# Altium integrated library Xilinx PLD XC7000.IntLib: 173 symbols (part 5 of 7)
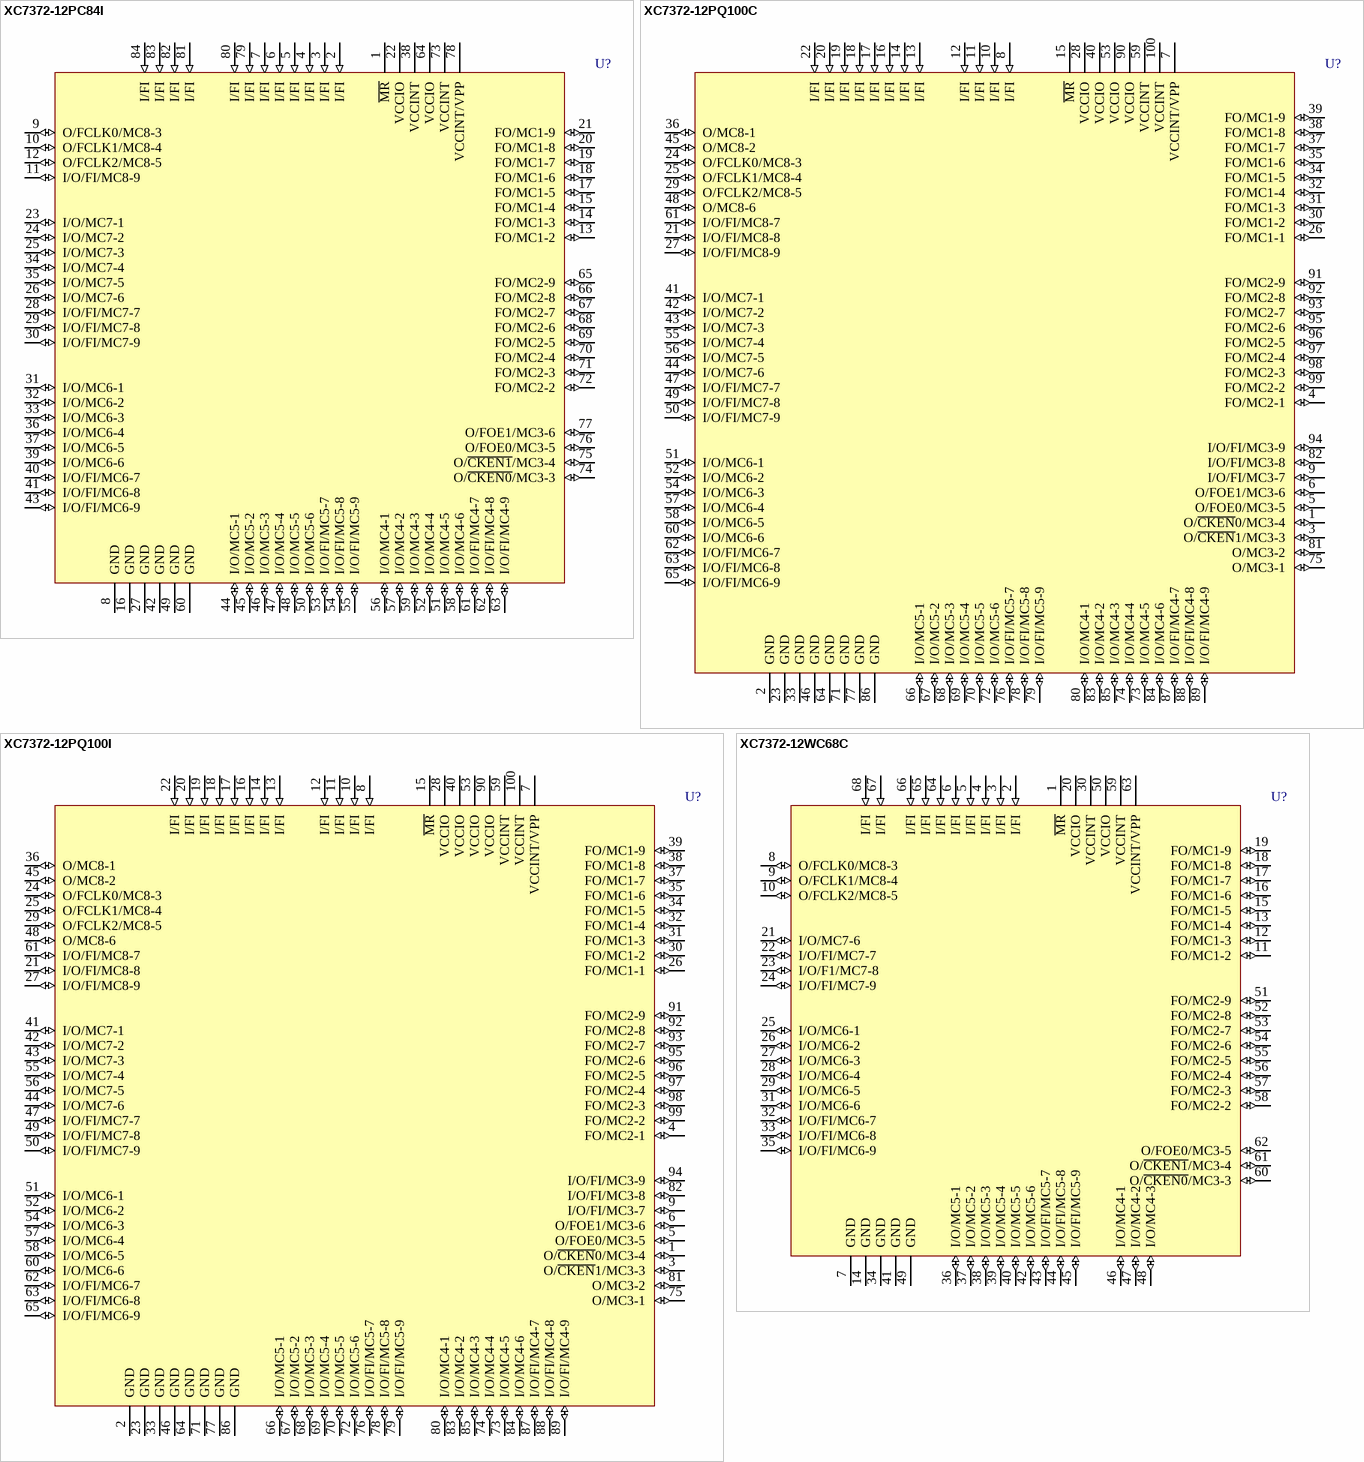
[diagram p51: symbols XC7372-12PC84I to XC7372-12WC68C]

## XC7372-12PC84I
designator U?
72 Macrocell CMOS EPLD, with 37 I/O Pins, 84-Pin PLCC, Industrial Grade; PackageDocument: ver1.0, Jun-2000; Published: 8-Jun-2000; LatestRevisionDate: 17-Sep-2003; LatestRevisionNote: PCB Footprint dimensions updated; DatasheetDocument: 1994; PackageReference: PC84; Publisher: Altium Limited; Code_JEDEC: MS-047; Code_IPC: PLCC-84
footprint PC84 (84-Pin Plastic Leaded Chip Carrier (PC84))
pins: 1 ~{MR}, 2 I/FI (in), 3 I/FI (in), 4 I/FI (in), 5 I/FI (in), 6 I/FI (in), 7 I/FI (in), 8 GND (power), 9 O/FCLK0/MC8-3 (io), 10 O/FCLK1/MC8-4 (io), 11 I/O/FI/MC8-9 (io), 12 O/FCLK2/MC8-5 (io), 13 FO/MC1-2 (io), 14 FO/MC1-3 (io), 15 FO/MC1-4 (io), 16 GND (power), 17 FO/MC1-5 (io), 18 FO/MC1-6 (io), 19 FO/MC1-7 (io), 20 FO/MC1-8 (io), 21 FO/MC1-9 (io), 22 VCCIO (power), 23 I/O/MC7-1 (io), 24 I/O/MC7-2 (io), 25 I/O/MC7-3 (io), 26 I/O/MC7-6 (io), 27 GND (power), 28 I/O/FI/MC7-7 (io), 29 I/O/FI/MC7-8 (io), 30 I/O/FI/MC7-9 (io), 31 I/O/MC6-1 (io), 32 I/O/MC6-2 (io), 33 I/O/MC6-3 (io), 34 I/O/MC7-4 (io), 35 I/O/MC7-5 (io), 36 I/O/MC6-4 (io), 37 I/O/MC6-5 (io), 38 VCCINT (power), 39 I/O/MC6-6 (io), 40 I/O/FI/MC6-7 (io), 41 I/O/FI/MC6-8 (io), 42 GND (power), 43 I/O/FI/MC6-9 (io), 44 I/O/MC5-1 (io), 45 I/O/MC5-2 (io), 46 I/O/MC5-3 (io), 47 I/O/MC5-4 (io), 48 I/O/MC5-5 (io), 49 GND (power), 50 I/O/MC5-6 (io), 51 I/O/MC4-5 (io), 52 I/O/MC4-4 (io), 53 I/O/FI/MC5-7 (io), 54 I/O/FI/MC5-8 (io), 55 I/O/FI/MC5-9 (io), 56 I/O/MC4-1 (io), 57 I/O/MC4-2 (io), 58 I/O/MC4-6 (io), 59 I/O/MC4-3 (io), 60 GND (power), 61 I/O/FI/MC4-7 (io), 62 I/O/FI/MC4-8 (io), 63 I/O/FI/MC4-9 (io), 64 VCCIO (power), 65 FO/MC2-9 (io), 66 FO/MC2-8 (io), 67 FO/MC2-7 (io), 68 FO/MC2-6 (io), 69 FO/MC2-5 (io), 70 FO/MC2-4 (io), 71 FO/MC2-3 (io), 72 FO/MC2-2 (io), 73 VCCINT (power), 74 O/~{CKEN0}/MC3-3 (io), 75 O/~{CKEN1}/MC3-4 (io), 76 O/FOE0/MC3-5 (io), 77 O/FOE1/MC3-6 (io), 78 VCCINT/VPP (power), 79 I/FI (in), 80 I/FI (in), 81 I/FI (in), 82 I/FI (in), 83 I/FI (in), 84 I/FI (in)

## XC7372-12PQ100C
designator U?
72 Macrocell CMOS EPLD, with 42 I/O Pins, 100-Pin PQFP, Commercial Grade; PackageDocument: ver1.2, Oct-2002; Published: 8-Jun-2000; LatestRevisionDate: 17-Sep-2003; LatestRevisionNote: PCB Footprint dimensions updated; DatasheetDocument: 1994; PackageReference: PQ100; Publisher: Altium Limited; Code_IPC: QFP-14X20-100
footprint PQ100 (100-Pin Plastic Quad Flat Pack (PQ100))
pins: 1 O/~{CKEN}0/MC3-4 (io), 2 GND (power), 3 O/~{CKEN}1/MC3-3 (io), 4 FO/MC2-1 (io), 5 O/FOE0/MC3-5 (io), 6 O/FOE1/MC3-6 (io), 7 VCCINT/VPP (power), 8 I/FI (in), 9 I/O/FI/MC3-7 (io), 10 I/FI (in), 11 I/FI (in), 12 I/FI (in), 13 I/FI (in), 14 I/FI (in), 15 ~{MR}, 16 I/FI (in), 17 I/FI (in), 18 I/FI (in), 19 I/FI (in), 20 I/FI (in), 21 I/O/FI/MC8-8 (io), 22 I/FI (in), 23 GND (power), 24 O/FCLK0/MC8-3 (io), 25 O/FCLK1/MC8-4 (io), 26 FO/MC1-1 (io), 27 I/O/FI/MC8-9 (io), 28 VCCIO (power), 29 O/FCLK2/MC8-5 (io), 30 FO/MC1-2 (io), 31 FO/MC1-3 (io), 32 FO/MC1-4 (io), 33 GND (power), 34 FO/MC1-5 (io), 35 FO/MC1-6 (io), 36 O/MC8-1 (io), 37 FO/MC1-7 (io), 38 FO/MC1-8 (io), 39 FO/MC1-9 (io), 40 VCCIO (power), 41 I/O/MC7-1 (io), 42 I/O/MC7-2 (io), 43 I/O/MC7-3 (io), 44 I/O/MC7-6 (io), 45 O/MC8-2 (io), 46 GND (power), 47 I/O/FI/MC7-7 (io), 48 O/MC8-6 (io), 49 I/O/FI/MC7-8 (io), 50 I/O/FI/MC7-9 (io), 51 I/O/MC6-1 (io), 52 I/O/MC6-2 (io), 53 VCCIO (power), 54 I/O/MC6-3 (io), 55 I/O/MC7-4 (io), 56 I/O/MC7-5 (io), 57 I/O/MC6-4 (io), 58 I/O/MC6-5 (io), 59 VCCINT (power), 60 I/O/MC6-6 (io), 61 I/O/FI/MC8-7 (io), 62 I/O/FI/MC6-7 (io), 63 I/O/FI/MC6-8 (io), 64 GND (power), 65 I/O/FI/MC6-9 (io), 66 I/O/MC5-1 (io), 67 I/O/MC5-2 (io), 68 I/O/MC5-3 (io), 69 I/O/MC5-4 (io), 70 I/O/MC5-5 (io), 71 GND (power), 72 I/O/MC5-6 (io), 73 I/O/MC4-5 (io), 74 I/O/MC4-4 (io), 75 O/MC3-1 (io), 76 I/O/FI/MC5-7 (io), 77 GND (power), 78 I/O/FI/MC5-8 (io), 79 I/O/FI/MC5-9 (io), 80 I/O/MC4-1 (io), 81 O/MC3-2 (io), 82 I/O/FI/MC3-8 (io), 83 I/O/MC4-2 (io), 84 I/O/MC4-6 (io), 85 I/O/MC4-3 (io), 86 GND (power), 87 I/O/FI/MC4-7 (io), 88 I/O/FI/MC4-8 (io), 89 I/O/FI/MC4-9 (io), 90 VCCIO (power), 91 FO/MC2-9 (io), 92 FO/MC2-8 (io), 93 FO/MC2-7 (io), 94 I/O/FI/MC3-9 (io), 95 FO/MC2-6 (io), 96 FO/MC2-5 (io), 97 FO/MC2-4 (io), 98 FO/MC2-3 (io), 99 FO/MC2-2 (io), 100 VCCINT (power)

## XC7372-12PQ100I
designator U?
72 Macrocell CMOS EPLD, with 42 I/O Pins, 100-Pin PQFP, Industrial Grade; PackageDocument: ver1.2, Oct-2002; Published: 8-Jun-2000; LatestRevisionDate: 17-Sep-2003; LatestRevisionNote: PCB Footprint dimensions updated; DatasheetDocument: 1994; PackageReference: PQ100; Publisher: Altium Limited; Code_IPC: QFP-14X20-100
footprint PQ100 (100-Pin Plastic Quad Flat Pack (PQ100))
pins: 1 O/~{CKEN}0/MC3-4 (io), 2 GND (power), 3 O/~{CKEN}1/MC3-3 (io), 4 FO/MC2-1 (io), 5 O/FOE0/MC3-5 (io), 6 O/FOE1/MC3-6 (io), 7 VCCINT/VPP (power), 8 I/FI (in), 9 I/O/FI/MC3-7 (io), 10 I/FI (in), 11 I/FI (in), 12 I/FI (in), 13 I/FI (in), 14 I/FI (in), 15 ~{MR}, 16 I/FI (in), 17 I/FI (in), 18 I/FI (in), 19 I/FI (in), 20 I/FI (in), 21 I/O/FI/MC8-8 (io), 22 I/FI (in), 23 GND (power), 24 O/FCLK0/MC8-3 (io), 25 O/FCLK1/MC8-4 (io), 26 FO/MC1-1 (io), 27 I/O/FI/MC8-9 (io), 28 VCCIO (power), 29 O/FCLK2/MC8-5 (io), 30 FO/MC1-2 (io), 31 FO/MC1-3 (io), 32 FO/MC1-4 (io), 33 GND (power), 34 FO/MC1-5 (io), 35 FO/MC1-6 (io), 36 O/MC8-1 (io), 37 FO/MC1-7 (io), 38 FO/MC1-8 (io), 39 FO/MC1-9 (io), 40 VCCIO (power), 41 I/O/MC7-1 (io), 42 I/O/MC7-2 (io), 43 I/O/MC7-3 (io), 44 I/O/MC7-6 (io), 45 O/MC8-2 (io), 46 GND (power), 47 I/O/FI/MC7-7 (io), 48 O/MC8-6 (io), 49 I/O/FI/MC7-8 (io), 50 I/O/FI/MC7-9 (io), 51 I/O/MC6-1 (io), 52 I/O/MC6-2 (io), 53 VCCIO (power), 54 I/O/MC6-3 (io), 55 I/O/MC7-4 (io), 56 I/O/MC7-5 (io), 57 I/O/MC6-4 (io), 58 I/O/MC6-5 (io), 59 VCCINT (power), 60 I/O/MC6-6 (io), 61 I/O/FI/MC8-7 (io), 62 I/O/FI/MC6-7 (io), 63 I/O/FI/MC6-8 (io), 64 GND (power), 65 I/O/FI/MC6-9 (io), 66 I/O/MC5-1 (io), 67 I/O/MC5-2 (io), 68 I/O/MC5-3 (io), 69 I/O/MC5-4 (io), 70 I/O/MC5-5 (io), 71 GND (power), 72 I/O/MC5-6 (io), 73 I/O/MC4-5 (io), 74 I/O/MC4-4 (io), 75 O/MC3-1 (io), 76 I/O/FI/MC5-7 (io), 77 GND (power), 78 I/O/FI/MC5-8 (io), 79 I/O/FI/MC5-9 (io), 80 I/O/MC4-1 (io), 81 O/MC3-2 (io), 82 I/O/FI/MC3-8 (io), 83 I/O/MC4-2 (io), 84 I/O/MC4-6 (io), 85 I/O/MC4-3 (io), 86 GND (power), 87 I/O/FI/MC4-7 (io), 88 I/O/FI/MC4-8 (io), 89 I/O/FI/MC4-9 (io), 90 VCCIO (power), 91 FO/MC2-9 (io), 92 FO/MC2-8 (io), 93 FO/MC2-7 (io), 94 I/O/FI/MC3-9 (io), 95 FO/MC2-6 (io), 96 FO/MC2-5 (io), 97 FO/MC2-4 (io), 98 FO/MC2-3 (io), 99 FO/MC2-2 (io), 100 VCCINT (power)

## XC7372-12WC68C
designator U?
72 Macrocell CMOS EPLD, with 25 I/O Pins, 68-Pin CLCC, Commercial Grade; PackageDocument: 1994; Published: 8-Jun-2000; LatestRevisionDate: 17-Jul-2002; LatestRevisionNote: Re-released for DXP Platform.; DatasheetDocument: 1994; PackageReference: WC68; Publisher: Altium Limited
footprint WC68 (68-Pin Windowed Ceramic Leaded Chip Carrier (WC68))
pins: 1 ~{MR}, 2 I/FI (in), 3 I/FI (in), 4 I/FI (in), 5 I/FI (in), 6 I/FI (in), 7 GND (power), 8 O/FCLK0/MC8-3 (io), 9 O/FCLK1/MC8-4 (io), 10 O/FCLK2/MC8-5 (io), 11 FO/MC1-2 (io), 12 FO/MC1-3 (io), 13 FO/MC1-4 (io), 14 GND (power), 15 FO/MC1-5 (io), 16 FO/MC1-6 (io), 17 FO/MC1-7 (io), 18 FO/MC1-8 (io), 19 FO/MC1-9 (io), 20 VCCIO (power), 21 I/O/MC7-6 (io), 22 I/O/FI/MC7-7 (io), 23 I/O/F1/MC7-8 (io), 24 I/O/FI/MC7-9 (io), 25 I/O/MC6-1 (io), 26 I/O/MC6-2 (io), 27 I/O/MC6-3 (io), 28 I/O/MC6-4 (io), 29 I/O/MC6-5 (io), 30 VCCINT (power), 31 I/O/MC6-6 (io), 32 I/O/FI/MC6-7 (io), 33 I/O/FI/MC6-8 (io), 34 GND (power), 35 I/O/FI/MC6-9 (io), 36 I/O/MC5-1 (io), 37 I/O/MC5-2 (io), 38 I/O/MC5-3 (io), 39 I/O/MC5-4 (io), 40 I/O/MC5-5 (io), 41 GND (power), 42 I/O/MC5-6 (io), 43 I/O/FI/MC5-7 (io), 44 I/O/FI/MC5-8 (io), 45 I/O/FI/MC5-9 (io), 46 I/O/MC4-1 (io), 47 I/O/MC4-2 (io), 48 I/O/MC4-3 (io), 49 GND (power), 50 VCCIO (power), 51 FO/MC2-9 (io), 52 FO/MC2-8 (io), 53 FO/MC2-7 (io), 54 FO/MC2-6 (io), 55 FO/MC2-5 (io), 56 FO/MC2-4 (io), 57 FO/MC2-3 (io), 58 FO/MC2-2 (io), 59 VCCINT (power), 60 O/~{CKEN0}/MC3-3 (io), 61 O/~{CKEN1}/MC3-4 (io), 62 O/FOE0/MC3-5 (io), 63 VCCINT/VPP (power), 64 I/FI (in), 65 I/FI (in), 66 I/FI (in), 67 I/FI (in), 68 I/FI (in)

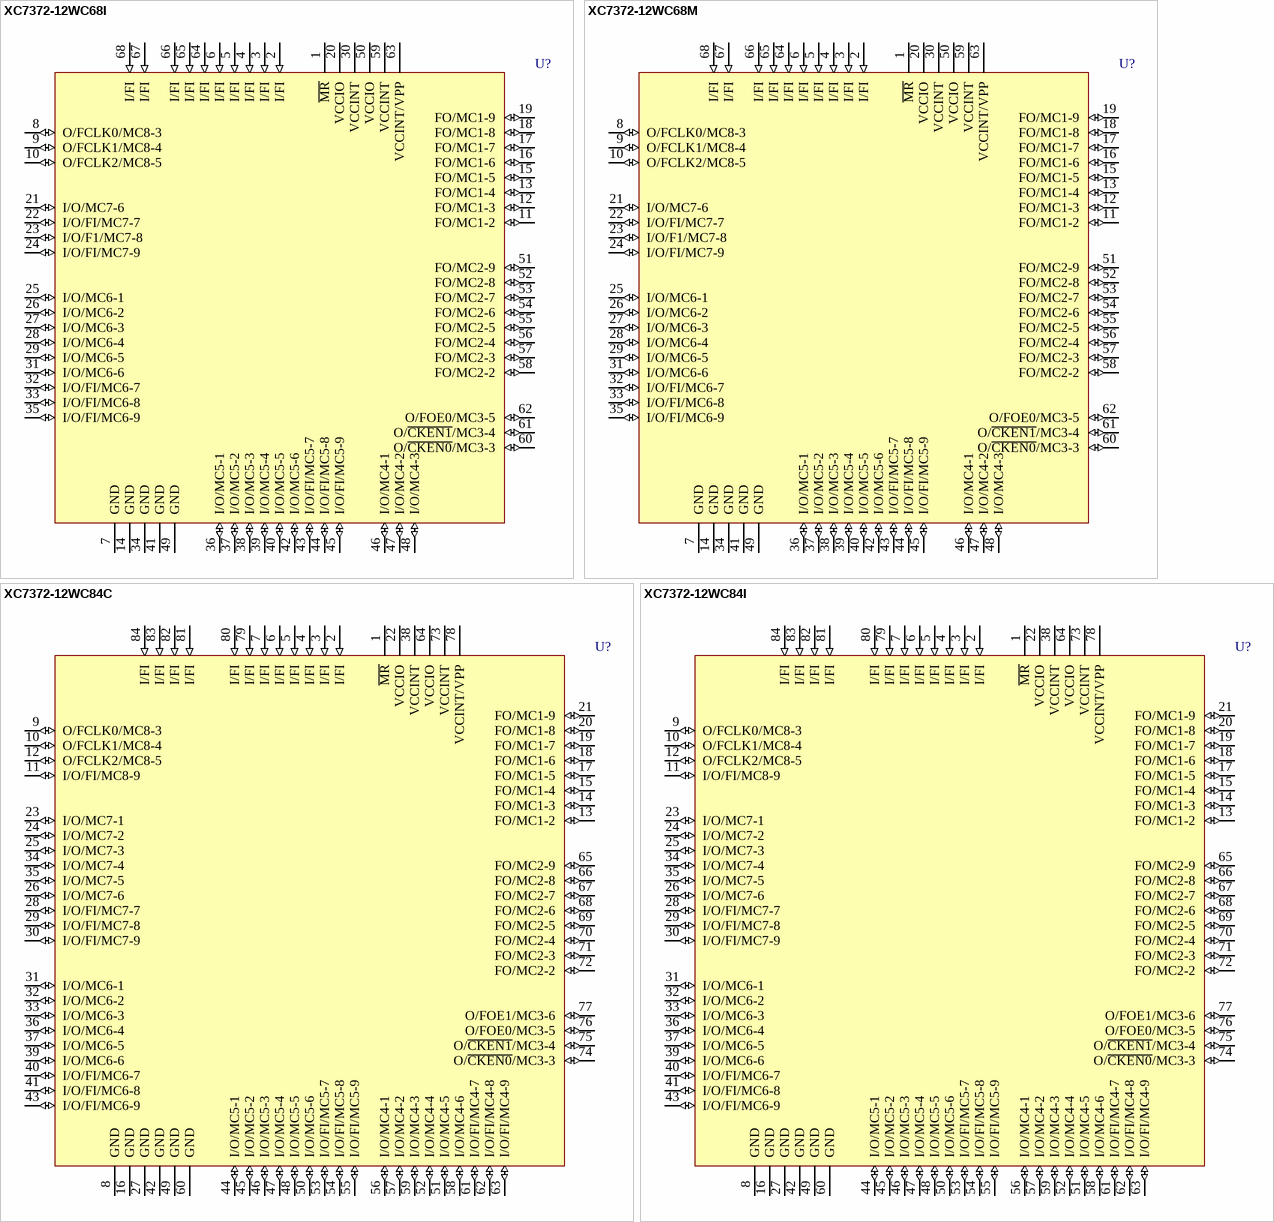
[diagram p25: symbols XC7372-12WC68I to XC7372-12WC84I]

## XC7372-12WC68I
designator U?
72 Macrocell CMOS EPLD, with 25 I/O Pins, 68-Pin CLCC, Industrial Grade; PackageDocument: 1994; Published: 8-Jun-2000; LatestRevisionDate: 17-Jul-2002; LatestRevisionNote: Re-released for DXP Platform.; DatasheetDocument: 1994; PackageReference: WC68; Publisher: Altium Limited
footprint WC68 (68-Pin Windowed Ceramic Leaded Chip Carrier (WC68))
pins: 1 ~{MR}, 2 I/FI (in), 3 I/FI (in), 4 I/FI (in), 5 I/FI (in), 6 I/FI (in), 7 GND (power), 8 O/FCLK0/MC8-3 (io), 9 O/FCLK1/MC8-4 (io), 10 O/FCLK2/MC8-5 (io), 11 FO/MC1-2 (io), 12 FO/MC1-3 (io), 13 FO/MC1-4 (io), 14 GND (power), 15 FO/MC1-5 (io), 16 FO/MC1-6 (io), 17 FO/MC1-7 (io), 18 FO/MC1-8 (io), 19 FO/MC1-9 (io), 20 VCCIO (power), 21 I/O/MC7-6 (io), 22 I/O/FI/MC7-7 (io), 23 I/O/F1/MC7-8 (io), 24 I/O/FI/MC7-9 (io), 25 I/O/MC6-1 (io), 26 I/O/MC6-2 (io), 27 I/O/MC6-3 (io), 28 I/O/MC6-4 (io), 29 I/O/MC6-5 (io), 30 VCCINT (power), 31 I/O/MC6-6 (io), 32 I/O/FI/MC6-7 (io), 33 I/O/FI/MC6-8 (io), 34 GND (power), 35 I/O/FI/MC6-9 (io), 36 I/O/MC5-1 (io), 37 I/O/MC5-2 (io), 38 I/O/MC5-3 (io), 39 I/O/MC5-4 (io), 40 I/O/MC5-5 (io), 41 GND (power), 42 I/O/MC5-6 (io), 43 I/O/FI/MC5-7 (io), 44 I/O/FI/MC5-8 (io), 45 I/O/FI/MC5-9 (io), 46 I/O/MC4-1 (io), 47 I/O/MC4-2 (io), 48 I/O/MC4-3 (io), 49 GND (power), 50 VCCIO (power), 51 FO/MC2-9 (io), 52 FO/MC2-8 (io), 53 FO/MC2-7 (io), 54 FO/MC2-6 (io), 55 FO/MC2-5 (io), 56 FO/MC2-4 (io), 57 FO/MC2-3 (io), 58 FO/MC2-2 (io), 59 VCCINT (power), 60 O/~{CKEN0}/MC3-3 (io), 61 O/~{CKEN1}/MC3-4 (io), 62 O/FOE0/MC3-5 (io), 63 VCCINT/VPP (power), 64 I/FI (in), 65 I/FI (in), 66 I/FI (in), 67 I/FI (in), 68 I/FI (in)

## XC7372-12WC68M
designator U?
72 Macrocell CMOS EPLD, with 25 I/O Pins, 68-Pin CLCC, Military Grade; PackageDocument: 1994; Published: 8-Jun-2000; LatestRevisionDate: 17-Jul-2002; LatestRevisionNote: Re-released for DXP Platform.; DatasheetDocument: 1994; PackageReference: WC68; Publisher: Altium Limited
footprint WC68 (68-Pin Windowed Ceramic Leaded Chip Carrier (WC68))
pins: 1 ~{MR}, 2 I/FI (in), 3 I/FI (in), 4 I/FI (in), 5 I/FI (in), 6 I/FI (in), 7 GND (power), 8 O/FCLK0/MC8-3 (io), 9 O/FCLK1/MC8-4 (io), 10 O/FCLK2/MC8-5 (io), 11 FO/MC1-2 (io), 12 FO/MC1-3 (io), 13 FO/MC1-4 (io), 14 GND (power), 15 FO/MC1-5 (io), 16 FO/MC1-6 (io), 17 FO/MC1-7 (io), 18 FO/MC1-8 (io), 19 FO/MC1-9 (io), 20 VCCIO (power), 21 I/O/MC7-6 (io), 22 I/O/FI/MC7-7 (io), 23 I/O/F1/MC7-8 (io), 24 I/O/FI/MC7-9 (io), 25 I/O/MC6-1 (io), 26 I/O/MC6-2 (io), 27 I/O/MC6-3 (io), 28 I/O/MC6-4 (io), 29 I/O/MC6-5 (io), 30 VCCINT (power), 31 I/O/MC6-6 (io), 32 I/O/FI/MC6-7 (io), 33 I/O/FI/MC6-8 (io), 34 GND (power), 35 I/O/FI/MC6-9 (io), 36 I/O/MC5-1 (io), 37 I/O/MC5-2 (io), 38 I/O/MC5-3 (io), 39 I/O/MC5-4 (io), 40 I/O/MC5-5 (io), 41 GND (power), 42 I/O/MC5-6 (io), 43 I/O/FI/MC5-7 (io), 44 I/O/FI/MC5-8 (io), 45 I/O/FI/MC5-9 (io), 46 I/O/MC4-1 (io), 47 I/O/MC4-2 (io), 48 I/O/MC4-3 (io), 49 GND (power), 50 VCCIO (power), 51 FO/MC2-9 (io), 52 FO/MC2-8 (io), 53 FO/MC2-7 (io), 54 FO/MC2-6 (io), 55 FO/MC2-5 (io), 56 FO/MC2-4 (io), 57 FO/MC2-3 (io), 58 FO/MC2-2 (io), 59 VCCINT (power), 60 O/~{CKEN0}/MC3-3 (io), 61 O/~{CKEN1}/MC3-4 (io), 62 O/FOE0/MC3-5 (io), 63 VCCINT/VPP (power), 64 I/FI (in), 65 I/FI (in), 66 I/FI (in), 67 I/FI (in), 68 I/FI (in)

## XC7372-12WC84C
designator U?
72 Macrocell CMOS EPLD, with 37 I/O Pins, 84-Pin CLCC, Commercial Grade; PackageDocument: 1994; Published: 8-Jun-2000; LatestRevisionDate: 17-Jul-2002; LatestRevisionNote: Re-released for DXP Platform.; DatasheetDocument: 1994; PackageReference: WC84; Publisher: Altium Limited
footprint WC84 (84-Pin Windowed Ceramic Leaded Chip Carrier (WC84))
pins: 1 ~{MR}, 2 I/FI (in), 3 I/FI (in), 4 I/FI (in), 5 I/FI (in), 6 I/FI (in), 7 I/FI (in), 8 GND (power), 9 O/FCLK0/MC8-3 (io), 10 O/FCLK1/MC8-4 (io), 11 I/O/FI/MC8-9 (io), 12 O/FCLK2/MC8-5 (io), 13 FO/MC1-2 (io), 14 FO/MC1-3 (io), 15 FO/MC1-4 (io), 16 GND (power), 17 FO/MC1-5 (io), 18 FO/MC1-6 (io), 19 FO/MC1-7 (io), 20 FO/MC1-8 (io), 21 FO/MC1-9 (io), 22 VCCIO (power), 23 I/O/MC7-1 (io), 24 I/O/MC7-2 (io), 25 I/O/MC7-3 (io), 26 I/O/MC7-6 (io), 27 GND (power), 28 I/O/FI/MC7-7 (io), 29 I/O/FI/MC7-8 (io), 30 I/O/FI/MC7-9 (io), 31 I/O/MC6-1 (io), 32 I/O/MC6-2 (io), 33 I/O/MC6-3 (io), 34 I/O/MC7-4 (io), 35 I/O/MC7-5 (io), 36 I/O/MC6-4 (io), 37 I/O/MC6-5 (io), 38 VCCINT (power), 39 I/O/MC6-6 (io), 40 I/O/FI/MC6-7 (io), 41 I/O/FI/MC6-8 (io), 42 GND (power), 43 I/O/FI/MC6-9 (io), 44 I/O/MC5-1 (io), 45 I/O/MC5-2 (io), 46 I/O/MC5-3 (io), 47 I/O/MC5-4 (io), 48 I/O/MC5-5 (io), 49 GND (power), 50 I/O/MC5-6 (io), 51 I/O/MC4-5 (io), 52 I/O/MC4-4 (io), 53 I/O/FI/MC5-7 (io), 54 I/O/FI/MC5-8 (io), 55 I/O/FI/MC5-9 (io), 56 I/O/MC4-1 (io), 57 I/O/MC4-2 (io), 58 I/O/MC4-6 (io), 59 I/O/MC4-3 (io), 60 GND (power), 61 I/O/FI/MC4-7 (io), 62 I/O/FI/MC4-8 (io), 63 I/O/FI/MC4-9 (io), 64 VCCIO (power), 65 FO/MC2-9 (io), 66 FO/MC2-8 (io), 67 FO/MC2-7 (io), 68 FO/MC2-6 (io), 69 FO/MC2-5 (io), 70 FO/MC2-4 (io), 71 FO/MC2-3 (io), 72 FO/MC2-2 (io), 73 VCCINT (power), 74 O/~{CKEN0}/MC3-3 (io), 75 O/~{CKEN1}/MC3-4 (io), 76 O/FOE0/MC3-5 (io), 77 O/FOE1/MC3-6 (io), 78 VCCINT/VPP (power), 79 I/FI (in), 80 I/FI (in), 81 I/FI (in), 82 I/FI (in), 83 I/FI (in), 84 I/FI (in)

## XC7372-12WC84I
designator U?
72 Macrocell CMOS EPLD, with 37 I/O Pins, 84-Pin CLCC, Industrial Grade; PackageDocument: 1994; Published: 8-Jun-2000; LatestRevisionDate: 17-Jul-2002; LatestRevisionNote: Re-released for DXP Platform.; DatasheetDocument: 1994; PackageReference: WC84; Publisher: Altium Limited
footprint WC84 (84-Pin Windowed Ceramic Leaded Chip Carrier (WC84))
pins: 1 ~{MR}, 2 I/FI (in), 3 I/FI (in), 4 I/FI (in), 5 I/FI (in), 6 I/FI (in), 7 I/FI (in), 8 GND (power), 9 O/FCLK0/MC8-3 (io), 10 O/FCLK1/MC8-4 (io), 11 I/O/FI/MC8-9 (io), 12 O/FCLK2/MC8-5 (io), 13 FO/MC1-2 (io), 14 FO/MC1-3 (io), 15 FO/MC1-4 (io), 16 GND (power), 17 FO/MC1-5 (io), 18 FO/MC1-6 (io), 19 FO/MC1-7 (io), 20 FO/MC1-8 (io), 21 FO/MC1-9 (io), 22 VCCIO (power), 23 I/O/MC7-1 (io), 24 I/O/MC7-2 (io), 25 I/O/MC7-3 (io), 26 I/O/MC7-6 (io), 27 GND (power), 28 I/O/FI/MC7-7 (io), 29 I/O/FI/MC7-8 (io), 30 I/O/FI/MC7-9 (io), 31 I/O/MC6-1 (io), 32 I/O/MC6-2 (io), 33 I/O/MC6-3 (io), 34 I/O/MC7-4 (io), 35 I/O/MC7-5 (io), 36 I/O/MC6-4 (io), 37 I/O/MC6-5 (io), 38 VCCINT (power), 39 I/O/MC6-6 (io), 40 I/O/FI/MC6-7 (io), 41 I/O/FI/MC6-8 (io), 42 GND (power), 43 I/O/FI/MC6-9 (io), 44 I/O/MC5-1 (io), 45 I/O/MC5-2 (io), 46 I/O/MC5-3 (io), 47 I/O/MC5-4 (io), 48 I/O/MC5-5 (io), 49 GND (power), 50 I/O/MC5-6 (io), 51 I/O/MC4-5 (io), 52 I/O/MC4-4 (io), 53 I/O/FI/MC5-7 (io), 54 I/O/FI/MC5-8 (io), 55 I/O/FI/MC5-9 (io), 56 I/O/MC4-1 (io), 57 I/O/MC4-2 (io), 58 I/O/MC4-6 (io), 59 I/O/MC4-3 (io), 60 GND (power), 61 I/O/FI/MC4-7 (io), 62 I/O/FI/MC4-8 (io), 63 I/O/FI/MC4-9 (io), 64 VCCIO (power), 65 FO/MC2-9 (io), 66 FO/MC2-8 (io), 67 FO/MC2-7 (io), 68 FO/MC2-6 (io), 69 FO/MC2-5 (io), 70 FO/MC2-4 (io), 71 FO/MC2-3 (io), 72 FO/MC2-2 (io), 73 VCCINT (power), 74 O/~{CKEN0}/MC3-3 (io), 75 O/~{CKEN1}/MC3-4 (io), 76 O/FOE0/MC3-5 (io), 77 O/FOE1/MC3-6 (io), 78 VCCINT/VPP (power), 79 I/FI (in), 80 I/FI (in), 81 I/FI (in), 82 I/FI (in), 83 I/FI (in), 84 I/FI (in)

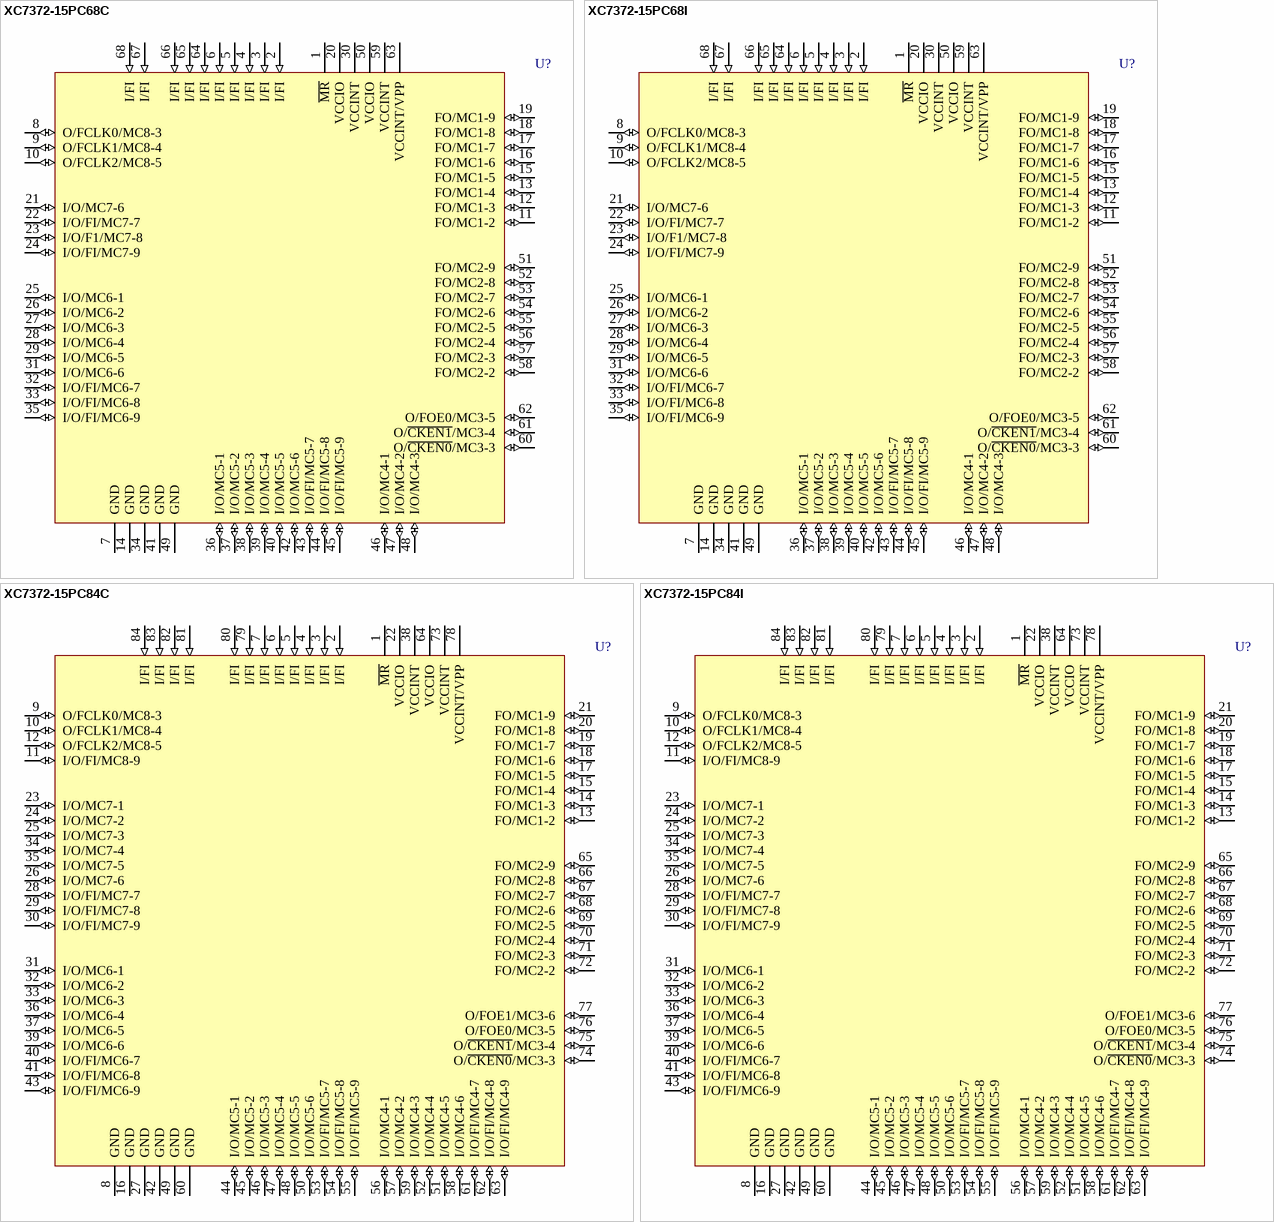
[diagram p26: symbols XC7372-15PC68C to XC7372-15PC84I]

## XC7372-15PC68C
designator U?
72 Macrocell CMOS EPLD, with 25 I/O Pins, 68-Pin PLCC, Commercial Grade; PackageDocument: ver1.0, Jun-2000; Published: 8-Jun-2000; LatestRevisionDate: 17-Sep-2003; LatestRevisionNote: PCB Footprint dimensions updated; DatasheetDocument: 1994; PackageReference: PC68; Publisher: Altium Limited; Code_JEDEC: MO-047; Code_IPC: PLCC-68
footprint PC68 (68-Pin Plastic Leaded Chip Carrier (PC68))
pins: 1 ~{MR}, 2 I/FI (in), 3 I/FI (in), 4 I/FI (in), 5 I/FI (in), 6 I/FI (in), 7 GND (power), 8 O/FCLK0/MC8-3 (io), 9 O/FCLK1/MC8-4 (io), 10 O/FCLK2/MC8-5 (io), 11 FO/MC1-2 (io), 12 FO/MC1-3 (io), 13 FO/MC1-4 (io), 14 GND (power), 15 FO/MC1-5 (io), 16 FO/MC1-6 (io), 17 FO/MC1-7 (io), 18 FO/MC1-8 (io), 19 FO/MC1-9 (io), 20 VCCIO (power), 21 I/O/MC7-6 (io), 22 I/O/FI/MC7-7 (io), 23 I/O/F1/MC7-8 (io), 24 I/O/FI/MC7-9 (io), 25 I/O/MC6-1 (io), 26 I/O/MC6-2 (io), 27 I/O/MC6-3 (io), 28 I/O/MC6-4 (io), 29 I/O/MC6-5 (io), 30 VCCINT (power), 31 I/O/MC6-6 (io), 32 I/O/FI/MC6-7 (io), 33 I/O/FI/MC6-8 (io), 34 GND (power), 35 I/O/FI/MC6-9 (io), 36 I/O/MC5-1 (io), 37 I/O/MC5-2 (io), 38 I/O/MC5-3 (io), 39 I/O/MC5-4 (io), 40 I/O/MC5-5 (io), 41 GND (power), 42 I/O/MC5-6 (io), 43 I/O/FI/MC5-7 (io), 44 I/O/FI/MC5-8 (io), 45 I/O/FI/MC5-9 (io), 46 I/O/MC4-1 (io), 47 I/O/MC4-2 (io), 48 I/O/MC4-3 (io), 49 GND (power), 50 VCCIO (power), 51 FO/MC2-9 (io), 52 FO/MC2-8 (io), 53 FO/MC2-7 (io), 54 FO/MC2-6 (io), 55 FO/MC2-5 (io), 56 FO/MC2-4 (io), 57 FO/MC2-3 (io), 58 FO/MC2-2 (io), 59 VCCINT (power), 60 O/~{CKEN0}/MC3-3 (io), 61 O/~{CKEN1}/MC3-4 (io), 62 O/FOE0/MC3-5 (io), 63 VCCINT/VPP (power), 64 I/FI (in), 65 I/FI (in), 66 I/FI (in), 67 I/FI (in), 68 I/FI (in)

## XC7372-15PC68I
designator U?
72 Macrocell CMOS EPLD, with 25 I/O Pins, 68-Pin PLCC, Industrial Grade; PackageDocument: ver1.0, Jun-2000; Published: 8-Jun-2000; LatestRevisionDate: 17-Sep-2003; LatestRevisionNote: PCB Footprint dimensions updated; DatasheetDocument: 1994; PackageReference: PC68; Publisher: Altium Limited; Code_JEDEC: MO-047; Code_IPC: PLCC-68
footprint PC68 (68-Pin Plastic Leaded Chip Carrier (PC68))
pins: 1 ~{MR}, 2 I/FI (in), 3 I/FI (in), 4 I/FI (in), 5 I/FI (in), 6 I/FI (in), 7 GND (power), 8 O/FCLK0/MC8-3 (io), 9 O/FCLK1/MC8-4 (io), 10 O/FCLK2/MC8-5 (io), 11 FO/MC1-2 (io), 12 FO/MC1-3 (io), 13 FO/MC1-4 (io), 14 GND (power), 15 FO/MC1-5 (io), 16 FO/MC1-6 (io), 17 FO/MC1-7 (io), 18 FO/MC1-8 (io), 19 FO/MC1-9 (io), 20 VCCIO (power), 21 I/O/MC7-6 (io), 22 I/O/FI/MC7-7 (io), 23 I/O/F1/MC7-8 (io), 24 I/O/FI/MC7-9 (io), 25 I/O/MC6-1 (io), 26 I/O/MC6-2 (io), 27 I/O/MC6-3 (io), 28 I/O/MC6-4 (io), 29 I/O/MC6-5 (io), 30 VCCINT (power), 31 I/O/MC6-6 (io), 32 I/O/FI/MC6-7 (io), 33 I/O/FI/MC6-8 (io), 34 GND (power), 35 I/O/FI/MC6-9 (io), 36 I/O/MC5-1 (io), 37 I/O/MC5-2 (io), 38 I/O/MC5-3 (io), 39 I/O/MC5-4 (io), 40 I/O/MC5-5 (io), 41 GND (power), 42 I/O/MC5-6 (io), 43 I/O/FI/MC5-7 (io), 44 I/O/FI/MC5-8 (io), 45 I/O/FI/MC5-9 (io), 46 I/O/MC4-1 (io), 47 I/O/MC4-2 (io), 48 I/O/MC4-3 (io), 49 GND (power), 50 VCCIO (power), 51 FO/MC2-9 (io), 52 FO/MC2-8 (io), 53 FO/MC2-7 (io), 54 FO/MC2-6 (io), 55 FO/MC2-5 (io), 56 FO/MC2-4 (io), 57 FO/MC2-3 (io), 58 FO/MC2-2 (io), 59 VCCINT (power), 60 O/~{CKEN0}/MC3-3 (io), 61 O/~{CKEN1}/MC3-4 (io), 62 O/FOE0/MC3-5 (io), 63 VCCINT/VPP (power), 64 I/FI (in), 65 I/FI (in), 66 I/FI (in), 67 I/FI (in), 68 I/FI (in)

## XC7372-15PC84C
designator U?
72 Macrocell CMOS EPLD, with 37 I/O Pins, 84-Pin PLCC, Commercial Grade; PackageDocument: ver1.0, Jun-2000; Published: 8-Jun-2000; LatestRevisionDate: 17-Sep-2003; LatestRevisionNote: PCB Footprint dimensions updated; DatasheetDocument: 1994; PackageReference: PC84; Publisher: Altium Limited; Code_JEDEC: MS-047; Code_IPC: PLCC-84
footprint PC84 (84-Pin Plastic Leaded Chip Carrier (PC84))
pins: 1 ~{MR}, 2 I/FI (in), 3 I/FI (in), 4 I/FI (in), 5 I/FI (in), 6 I/FI (in), 7 I/FI (in), 8 GND (power), 9 O/FCLK0/MC8-3 (io), 10 O/FCLK1/MC8-4 (io), 11 I/O/FI/MC8-9 (io), 12 O/FCLK2/MC8-5 (io), 13 FO/MC1-2 (io), 14 FO/MC1-3 (io), 15 FO/MC1-4 (io), 16 GND (power), 17 FO/MC1-5 (io), 18 FO/MC1-6 (io), 19 FO/MC1-7 (io), 20 FO/MC1-8 (io), 21 FO/MC1-9 (io), 22 VCCIO (power), 23 I/O/MC7-1 (io), 24 I/O/MC7-2 (io), 25 I/O/MC7-3 (io), 26 I/O/MC7-6 (io), 27 GND (power), 28 I/O/FI/MC7-7 (io), 29 I/O/FI/MC7-8 (io), 30 I/O/FI/MC7-9 (io), 31 I/O/MC6-1 (io), 32 I/O/MC6-2 (io), 33 I/O/MC6-3 (io), 34 I/O/MC7-4 (io), 35 I/O/MC7-5 (io), 36 I/O/MC6-4 (io), 37 I/O/MC6-5 (io), 38 VCCINT (power), 39 I/O/MC6-6 (io), 40 I/O/FI/MC6-7 (io), 41 I/O/FI/MC6-8 (io), 42 GND (power), 43 I/O/FI/MC6-9 (io), 44 I/O/MC5-1 (io), 45 I/O/MC5-2 (io), 46 I/O/MC5-3 (io), 47 I/O/MC5-4 (io), 48 I/O/MC5-5 (io), 49 GND (power), 50 I/O/MC5-6 (io), 51 I/O/MC4-5 (io), 52 I/O/MC4-4 (io), 53 I/O/FI/MC5-7 (io), 54 I/O/FI/MC5-8 (io), 55 I/O/FI/MC5-9 (io), 56 I/O/MC4-1 (io), 57 I/O/MC4-2 (io), 58 I/O/MC4-6 (io), 59 I/O/MC4-3 (io), 60 GND (power), 61 I/O/FI/MC4-7 (io), 62 I/O/FI/MC4-8 (io), 63 I/O/FI/MC4-9 (io), 64 VCCIO (power), 65 FO/MC2-9 (io), 66 FO/MC2-8 (io), 67 FO/MC2-7 (io), 68 FO/MC2-6 (io), 69 FO/MC2-5 (io), 70 FO/MC2-4 (io), 71 FO/MC2-3 (io), 72 FO/MC2-2 (io), 73 VCCINT (power), 74 O/~{CKEN0}/MC3-3 (io), 75 O/~{CKEN1}/MC3-4 (io), 76 O/FOE0/MC3-5 (io), 77 O/FOE1/MC3-6 (io), 78 VCCINT/VPP (power), 79 I/FI (in), 80 I/FI (in), 81 I/FI (in), 82 I/FI (in), 83 I/FI (in), 84 I/FI (in)

## XC7372-15PC84I
designator U?
72 Macrocell CMOS EPLD, with 37 I/O Pins, 84-Pin PLCC, Industrial Grade; PackageDocument: ver1.0, Jun-2000; Published: 8-Jun-2000; LatestRevisionDate: 17-Sep-2003; LatestRevisionNote: PCB Footprint dimensions updated; DatasheetDocument: 1994; PackageReference: PC84; Publisher: Altium Limited; Code_JEDEC: MS-047; Code_IPC: PLCC-84
footprint PC84 (84-Pin Plastic Leaded Chip Carrier (PC84))
pins: 1 ~{MR}, 2 I/FI (in), 3 I/FI (in), 4 I/FI (in), 5 I/FI (in), 6 I/FI (in), 7 I/FI (in), 8 GND (power), 9 O/FCLK0/MC8-3 (io), 10 O/FCLK1/MC8-4 (io), 11 I/O/FI/MC8-9 (io), 12 O/FCLK2/MC8-5 (io), 13 FO/MC1-2 (io), 14 FO/MC1-3 (io), 15 FO/MC1-4 (io), 16 GND (power), 17 FO/MC1-5 (io), 18 FO/MC1-6 (io), 19 FO/MC1-7 (io), 20 FO/MC1-8 (io), 21 FO/MC1-9 (io), 22 VCCIO (power), 23 I/O/MC7-1 (io), 24 I/O/MC7-2 (io), 25 I/O/MC7-3 (io), 26 I/O/MC7-6 (io), 27 GND (power), 28 I/O/FI/MC7-7 (io), 29 I/O/FI/MC7-8 (io), 30 I/O/FI/MC7-9 (io), 31 I/O/MC6-1 (io), 32 I/O/MC6-2 (io), 33 I/O/MC6-3 (io), 34 I/O/MC7-4 (io), 35 I/O/MC7-5 (io), 36 I/O/MC6-4 (io), 37 I/O/MC6-5 (io), 38 VCCINT (power), 39 I/O/MC6-6 (io), 40 I/O/FI/MC6-7 (io), 41 I/O/FI/MC6-8 (io), 42 GND (power), 43 I/O/FI/MC6-9 (io), 44 I/O/MC5-1 (io), 45 I/O/MC5-2 (io), 46 I/O/MC5-3 (io), 47 I/O/MC5-4 (io), 48 I/O/MC5-5 (io), 49 GND (power), 50 I/O/MC5-6 (io), 51 I/O/MC4-5 (io), 52 I/O/MC4-4 (io), 53 I/O/FI/MC5-7 (io), 54 I/O/FI/MC5-8 (io), 55 I/O/FI/MC5-9 (io), 56 I/O/MC4-1 (io), 57 I/O/MC4-2 (io), 58 I/O/MC4-6 (io), 59 I/O/MC4-3 (io), 60 GND (power), 61 I/O/FI/MC4-7 (io), 62 I/O/FI/MC4-8 (io), 63 I/O/FI/MC4-9 (io), 64 VCCIO (power), 65 FO/MC2-9 (io), 66 FO/MC2-8 (io), 67 FO/MC2-7 (io), 68 FO/MC2-6 (io), 69 FO/MC2-5 (io), 70 FO/MC2-4 (io), 71 FO/MC2-3 (io), 72 FO/MC2-2 (io), 73 VCCINT (power), 74 O/~{CKEN0}/MC3-3 (io), 75 O/~{CKEN1}/MC3-4 (io), 76 O/FOE0/MC3-5 (io), 77 O/FOE1/MC3-6 (io), 78 VCCINT/VPP (power), 79 I/FI (in), 80 I/FI (in), 81 I/FI (in), 82 I/FI (in), 83 I/FI (in), 84 I/FI (in)

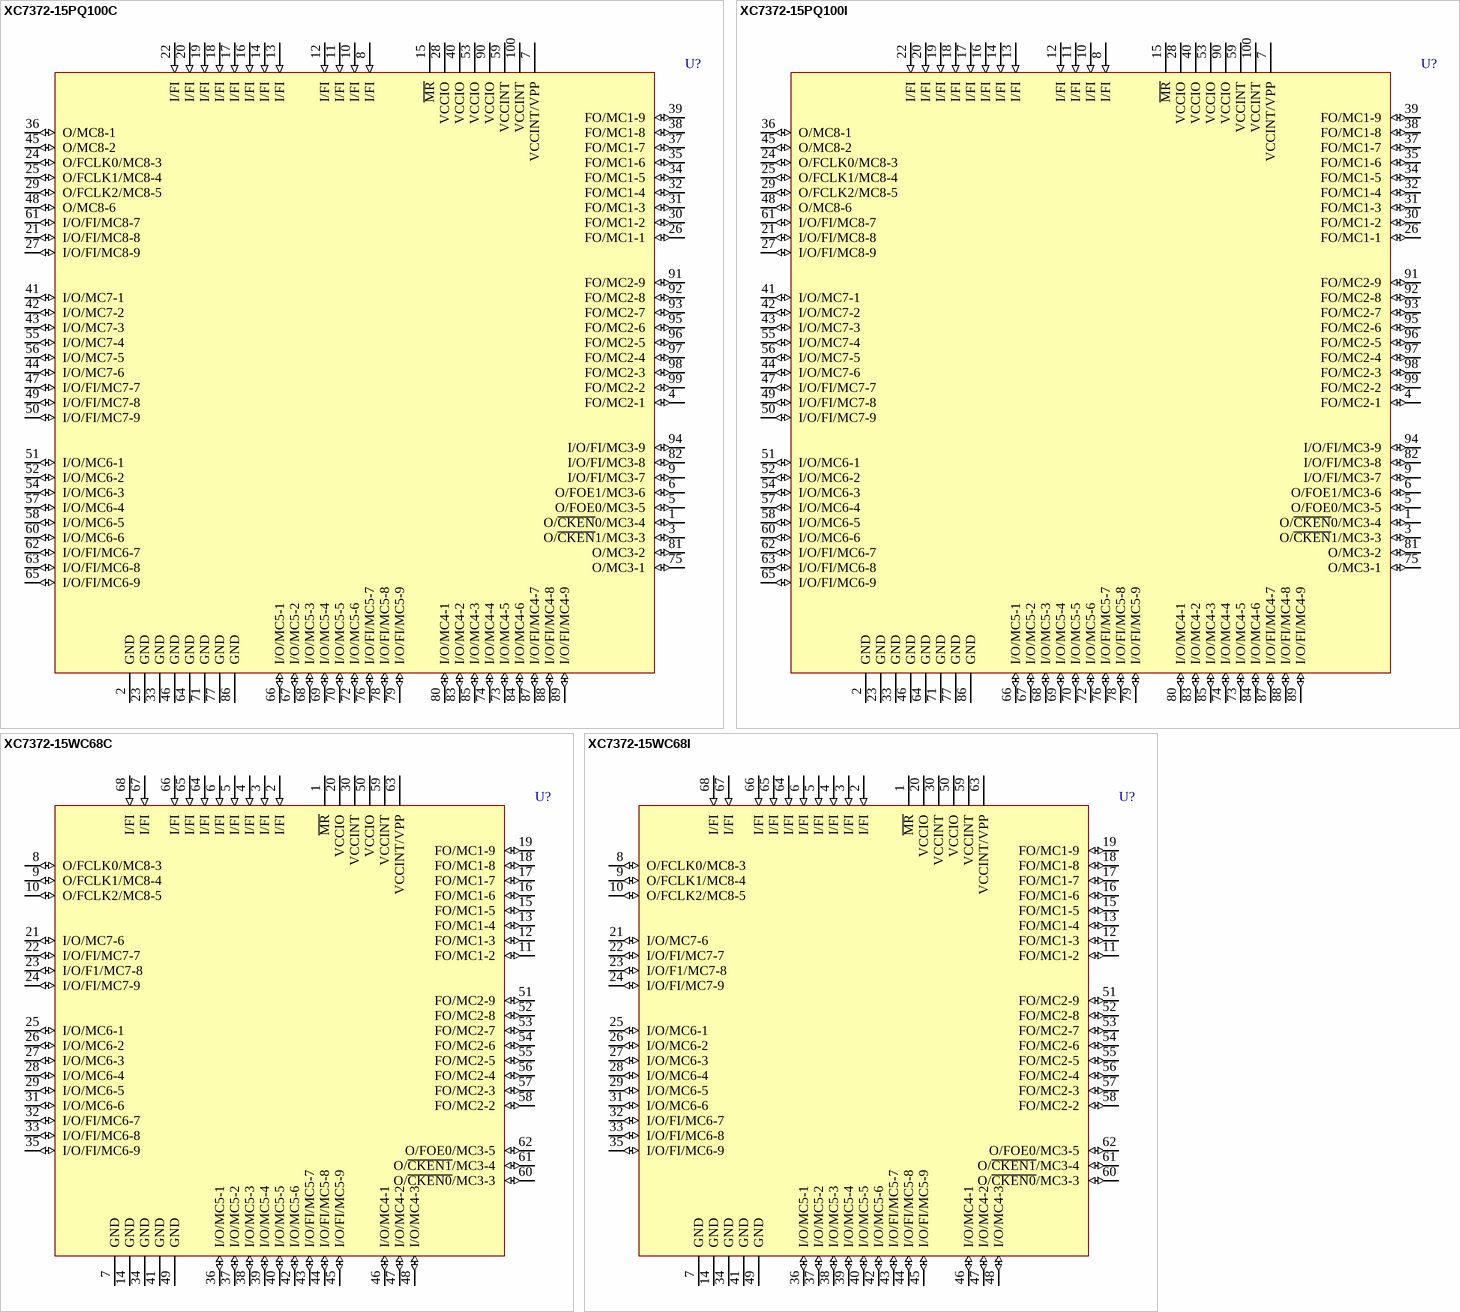
[diagram p27: symbols XC7372-15PQ100C to XC7372-15WC68I]

## XC7372-15PQ100C
designator U?
72 Macrocell CMOS EPLD, with 42 I/O Pins, 100-Pin PQFP, Commercial Grade; PackageDocument: ver1.2, Oct-2002; Published: 8-Jun-2000; LatestRevisionDate: 17-Sep-2003; LatestRevisionNote: PCB Footprint dimensions updated; DatasheetDocument: 1994; PackageReference: PQ100; Publisher: Altium Limited; Code_IPC: QFP-14X20-100
footprint PQ100 (100-Pin Plastic Quad Flat Pack (PQ100))
pins: 1 O/~{CKEN}0/MC3-4 (io), 2 GND (power), 3 O/~{CKEN}1/MC3-3 (io), 4 FO/MC2-1 (io), 5 O/FOE0/MC3-5 (io), 6 O/FOE1/MC3-6 (io), 7 VCCINT/VPP (power), 8 I/FI (in), 9 I/O/FI/MC3-7 (io), 10 I/FI (in), 11 I/FI (in), 12 I/FI (in), 13 I/FI (in), 14 I/FI (in), 15 ~{MR}, 16 I/FI (in), 17 I/FI (in), 18 I/FI (in), 19 I/FI (in), 20 I/FI (in), 21 I/O/FI/MC8-8 (io), 22 I/FI (in), 23 GND (power), 24 O/FCLK0/MC8-3 (io), 25 O/FCLK1/MC8-4 (io), 26 FO/MC1-1 (io), 27 I/O/FI/MC8-9 (io), 28 VCCIO (power), 29 O/FCLK2/MC8-5 (io), 30 FO/MC1-2 (io), 31 FO/MC1-3 (io), 32 FO/MC1-4 (io), 33 GND (power), 34 FO/MC1-5 (io), 35 FO/MC1-6 (io), 36 O/MC8-1 (io), 37 FO/MC1-7 (io), 38 FO/MC1-8 (io), 39 FO/MC1-9 (io), 40 VCCIO (power), 41 I/O/MC7-1 (io), 42 I/O/MC7-2 (io), 43 I/O/MC7-3 (io), 44 I/O/MC7-6 (io), 45 O/MC8-2 (io), 46 GND (power), 47 I/O/FI/MC7-7 (io), 48 O/MC8-6 (io), 49 I/O/FI/MC7-8 (io), 50 I/O/FI/MC7-9 (io), 51 I/O/MC6-1 (io), 52 I/O/MC6-2 (io), 53 VCCIO (power), 54 I/O/MC6-3 (io), 55 I/O/MC7-4 (io), 56 I/O/MC7-5 (io), 57 I/O/MC6-4 (io), 58 I/O/MC6-5 (io), 59 VCCINT (power), 60 I/O/MC6-6 (io), 61 I/O/FI/MC8-7 (io), 62 I/O/FI/MC6-7 (io), 63 I/O/FI/MC6-8 (io), 64 GND (power), 65 I/O/FI/MC6-9 (io), 66 I/O/MC5-1 (io), 67 I/O/MC5-2 (io), 68 I/O/MC5-3 (io), 69 I/O/MC5-4 (io), 70 I/O/MC5-5 (io), 71 GND (power), 72 I/O/MC5-6 (io), 73 I/O/MC4-5 (io), 74 I/O/MC4-4 (io), 75 O/MC3-1 (io), 76 I/O/FI/MC5-7 (io), 77 GND (power), 78 I/O/FI/MC5-8 (io), 79 I/O/FI/MC5-9 (io), 80 I/O/MC4-1 (io), 81 O/MC3-2 (io), 82 I/O/FI/MC3-8 (io), 83 I/O/MC4-2 (io), 84 I/O/MC4-6 (io), 85 I/O/MC4-3 (io), 86 GND (power), 87 I/O/FI/MC4-7 (io), 88 I/O/FI/MC4-8 (io), 89 I/O/FI/MC4-9 (io), 90 VCCIO (power), 91 FO/MC2-9 (io), 92 FO/MC2-8 (io), 93 FO/MC2-7 (io), 94 I/O/FI/MC3-9 (io), 95 FO/MC2-6 (io), 96 FO/MC2-5 (io), 97 FO/MC2-4 (io), 98 FO/MC2-3 (io), 99 FO/MC2-2 (io), 100 VCCINT (power)

## XC7372-15PQ100I
designator U?
72 Macrocell CMOS EPLD, with 42 I/O Pins, 100-Pin PQFP, Industrial Grade; PackageDocument: ver1.2, Oct-2002; Published: 8-Jun-2000; LatestRevisionDate: 17-Sep-2003; LatestRevisionNote: PCB Footprint dimensions updated; DatasheetDocument: 1994; PackageReference: PQ100; Publisher: Altium Limited; Code_IPC: QFP-14X20-100
footprint PQ100 (100-Pin Plastic Quad Flat Pack (PQ100))
pins: 1 O/~{CKEN}0/MC3-4 (io), 2 GND (power), 3 O/~{CKEN}1/MC3-3 (io), 4 FO/MC2-1 (io), 5 O/FOE0/MC3-5 (io), 6 O/FOE1/MC3-6 (io), 7 VCCINT/VPP (power), 8 I/FI (in), 9 I/O/FI/MC3-7 (io), 10 I/FI (in), 11 I/FI (in), 12 I/FI (in), 13 I/FI (in), 14 I/FI (in), 15 ~{MR}, 16 I/FI (in), 17 I/FI (in), 18 I/FI (in), 19 I/FI (in), 20 I/FI (in), 21 I/O/FI/MC8-8 (io), 22 I/FI (in), 23 GND (power), 24 O/FCLK0/MC8-3 (io), 25 O/FCLK1/MC8-4 (io), 26 FO/MC1-1 (io), 27 I/O/FI/MC8-9 (io), 28 VCCIO (power), 29 O/FCLK2/MC8-5 (io), 30 FO/MC1-2 (io), 31 FO/MC1-3 (io), 32 FO/MC1-4 (io), 33 GND (power), 34 FO/MC1-5 (io), 35 FO/MC1-6 (io), 36 O/MC8-1 (io), 37 FO/MC1-7 (io), 38 FO/MC1-8 (io), 39 FO/MC1-9 (io), 40 VCCIO (power), 41 I/O/MC7-1 (io), 42 I/O/MC7-2 (io), 43 I/O/MC7-3 (io), 44 I/O/MC7-6 (io), 45 O/MC8-2 (io), 46 GND (power), 47 I/O/FI/MC7-7 (io), 48 O/MC8-6 (io), 49 I/O/FI/MC7-8 (io), 50 I/O/FI/MC7-9 (io), 51 I/O/MC6-1 (io), 52 I/O/MC6-2 (io), 53 VCCIO (power), 54 I/O/MC6-3 (io), 55 I/O/MC7-4 (io), 56 I/O/MC7-5 (io), 57 I/O/MC6-4 (io), 58 I/O/MC6-5 (io), 59 VCCINT (power), 60 I/O/MC6-6 (io), 61 I/O/FI/MC8-7 (io), 62 I/O/FI/MC6-7 (io), 63 I/O/FI/MC6-8 (io), 64 GND (power), 65 I/O/FI/MC6-9 (io), 66 I/O/MC5-1 (io), 67 I/O/MC5-2 (io), 68 I/O/MC5-3 (io), 69 I/O/MC5-4 (io), 70 I/O/MC5-5 (io), 71 GND (power), 72 I/O/MC5-6 (io), 73 I/O/MC4-5 (io), 74 I/O/MC4-4 (io), 75 O/MC3-1 (io), 76 I/O/FI/MC5-7 (io), 77 GND (power), 78 I/O/FI/MC5-8 (io), 79 I/O/FI/MC5-9 (io), 80 I/O/MC4-1 (io), 81 O/MC3-2 (io), 82 I/O/FI/MC3-8 (io), 83 I/O/MC4-2 (io), 84 I/O/MC4-6 (io), 85 I/O/MC4-3 (io), 86 GND (power), 87 I/O/FI/MC4-7 (io), 88 I/O/FI/MC4-8 (io), 89 I/O/FI/MC4-9 (io), 90 VCCIO (power), 91 FO/MC2-9 (io), 92 FO/MC2-8 (io), 93 FO/MC2-7 (io), 94 I/O/FI/MC3-9 (io), 95 FO/MC2-6 (io), 96 FO/MC2-5 (io), 97 FO/MC2-4 (io), 98 FO/MC2-3 (io), 99 FO/MC2-2 (io), 100 VCCINT (power)

## XC7372-15WC68C
designator U?
72 Macrocell CMOS EPLD, with 25 I/O Pins, 68-Pin CLCC, Commercial Grade; PackageDocument: 1994; Published: 8-Jun-2000; LatestRevisionDate: 17-Jul-2002; LatestRevisionNote: Re-released for DXP Platform.; DatasheetDocument: 1994; PackageReference: WC68; Publisher: Altium Limited
footprint WC68 (68-Pin Windowed Ceramic Leaded Chip Carrier (WC68))
pins: 1 ~{MR}, 2 I/FI (in), 3 I/FI (in), 4 I/FI (in), 5 I/FI (in), 6 I/FI (in), 7 GND (power), 8 O/FCLK0/MC8-3 (io), 9 O/FCLK1/MC8-4 (io), 10 O/FCLK2/MC8-5 (io), 11 FO/MC1-2 (io), 12 FO/MC1-3 (io), 13 FO/MC1-4 (io), 14 GND (power), 15 FO/MC1-5 (io), 16 FO/MC1-6 (io), 17 FO/MC1-7 (io), 18 FO/MC1-8 (io), 19 FO/MC1-9 (io), 20 VCCIO (power), 21 I/O/MC7-6 (io), 22 I/O/FI/MC7-7 (io), 23 I/O/F1/MC7-8 (io), 24 I/O/FI/MC7-9 (io), 25 I/O/MC6-1 (io), 26 I/O/MC6-2 (io), 27 I/O/MC6-3 (io), 28 I/O/MC6-4 (io), 29 I/O/MC6-5 (io), 30 VCCINT (power), 31 I/O/MC6-6 (io), 32 I/O/FI/MC6-7 (io), 33 I/O/FI/MC6-8 (io), 34 GND (power), 35 I/O/FI/MC6-9 (io), 36 I/O/MC5-1 (io), 37 I/O/MC5-2 (io), 38 I/O/MC5-3 (io), 39 I/O/MC5-4 (io), 40 I/O/MC5-5 (io), 41 GND (power), 42 I/O/MC5-6 (io), 43 I/O/FI/MC5-7 (io), 44 I/O/FI/MC5-8 (io), 45 I/O/FI/MC5-9 (io), 46 I/O/MC4-1 (io), 47 I/O/MC4-2 (io), 48 I/O/MC4-3 (io), 49 GND (power), 50 VCCIO (power), 51 FO/MC2-9 (io), 52 FO/MC2-8 (io), 53 FO/MC2-7 (io), 54 FO/MC2-6 (io), 55 FO/MC2-5 (io), 56 FO/MC2-4 (io), 57 FO/MC2-3 (io), 58 FO/MC2-2 (io), 59 VCCINT (power), 60 O/~{CKEN0}/MC3-3 (io), 61 O/~{CKEN1}/MC3-4 (io), 62 O/FOE0/MC3-5 (io), 63 VCCINT/VPP (power), 64 I/FI (in), 65 I/FI (in), 66 I/FI (in), 67 I/FI (in), 68 I/FI (in)

## XC7372-15WC68I
designator U?
72 Macrocell CMOS EPLD, with 25 I/O Pins, 68-Pin CLCC, Industrial Grade; PackageDocument: 1994; Published: 8-Jun-2000; LatestRevisionDate: 17-Jul-2002; LatestRevisionNote: Re-released for DXP Platform.; DatasheetDocument: 1994; PackageReference: WC68; Publisher: Altium Limited
footprint WC68 (68-Pin Windowed Ceramic Leaded Chip Carrier (WC68))
pins: 1 ~{MR}, 2 I/FI (in), 3 I/FI (in), 4 I/FI (in), 5 I/FI (in), 6 I/FI (in), 7 GND (power), 8 O/FCLK0/MC8-3 (io), 9 O/FCLK1/MC8-4 (io), 10 O/FCLK2/MC8-5 (io), 11 FO/MC1-2 (io), 12 FO/MC1-3 (io), 13 FO/MC1-4 (io), 14 GND (power), 15 FO/MC1-5 (io), 16 FO/MC1-6 (io), 17 FO/MC1-7 (io), 18 FO/MC1-8 (io), 19 FO/MC1-9 (io), 20 VCCIO (power), 21 I/O/MC7-6 (io), 22 I/O/FI/MC7-7 (io), 23 I/O/F1/MC7-8 (io), 24 I/O/FI/MC7-9 (io), 25 I/O/MC6-1 (io), 26 I/O/MC6-2 (io), 27 I/O/MC6-3 (io), 28 I/O/MC6-4 (io), 29 I/O/MC6-5 (io), 30 VCCINT (power), 31 I/O/MC6-6 (io), 32 I/O/FI/MC6-7 (io), 33 I/O/FI/MC6-8 (io), 34 GND (power), 35 I/O/FI/MC6-9 (io), 36 I/O/MC5-1 (io), 37 I/O/MC5-2 (io), 38 I/O/MC5-3 (io), 39 I/O/MC5-4 (io), 40 I/O/MC5-5 (io), 41 GND (power), 42 I/O/MC5-6 (io), 43 I/O/FI/MC5-7 (io), 44 I/O/FI/MC5-8 (io), 45 I/O/FI/MC5-9 (io), 46 I/O/MC4-1 (io), 47 I/O/MC4-2 (io), 48 I/O/MC4-3 (io), 49 GND (power), 50 VCCIO (power), 51 FO/MC2-9 (io), 52 FO/MC2-8 (io), 53 FO/MC2-7 (io), 54 FO/MC2-6 (io), 55 FO/MC2-5 (io), 56 FO/MC2-4 (io), 57 FO/MC2-3 (io), 58 FO/MC2-2 (io), 59 VCCINT (power), 60 O/~{CKEN0}/MC3-3 (io), 61 O/~{CKEN1}/MC3-4 (io), 62 O/FOE0/MC3-5 (io), 63 VCCINT/VPP (power), 64 I/FI (in), 65 I/FI (in), 66 I/FI (in), 67 I/FI (in), 68 I/FI (in)

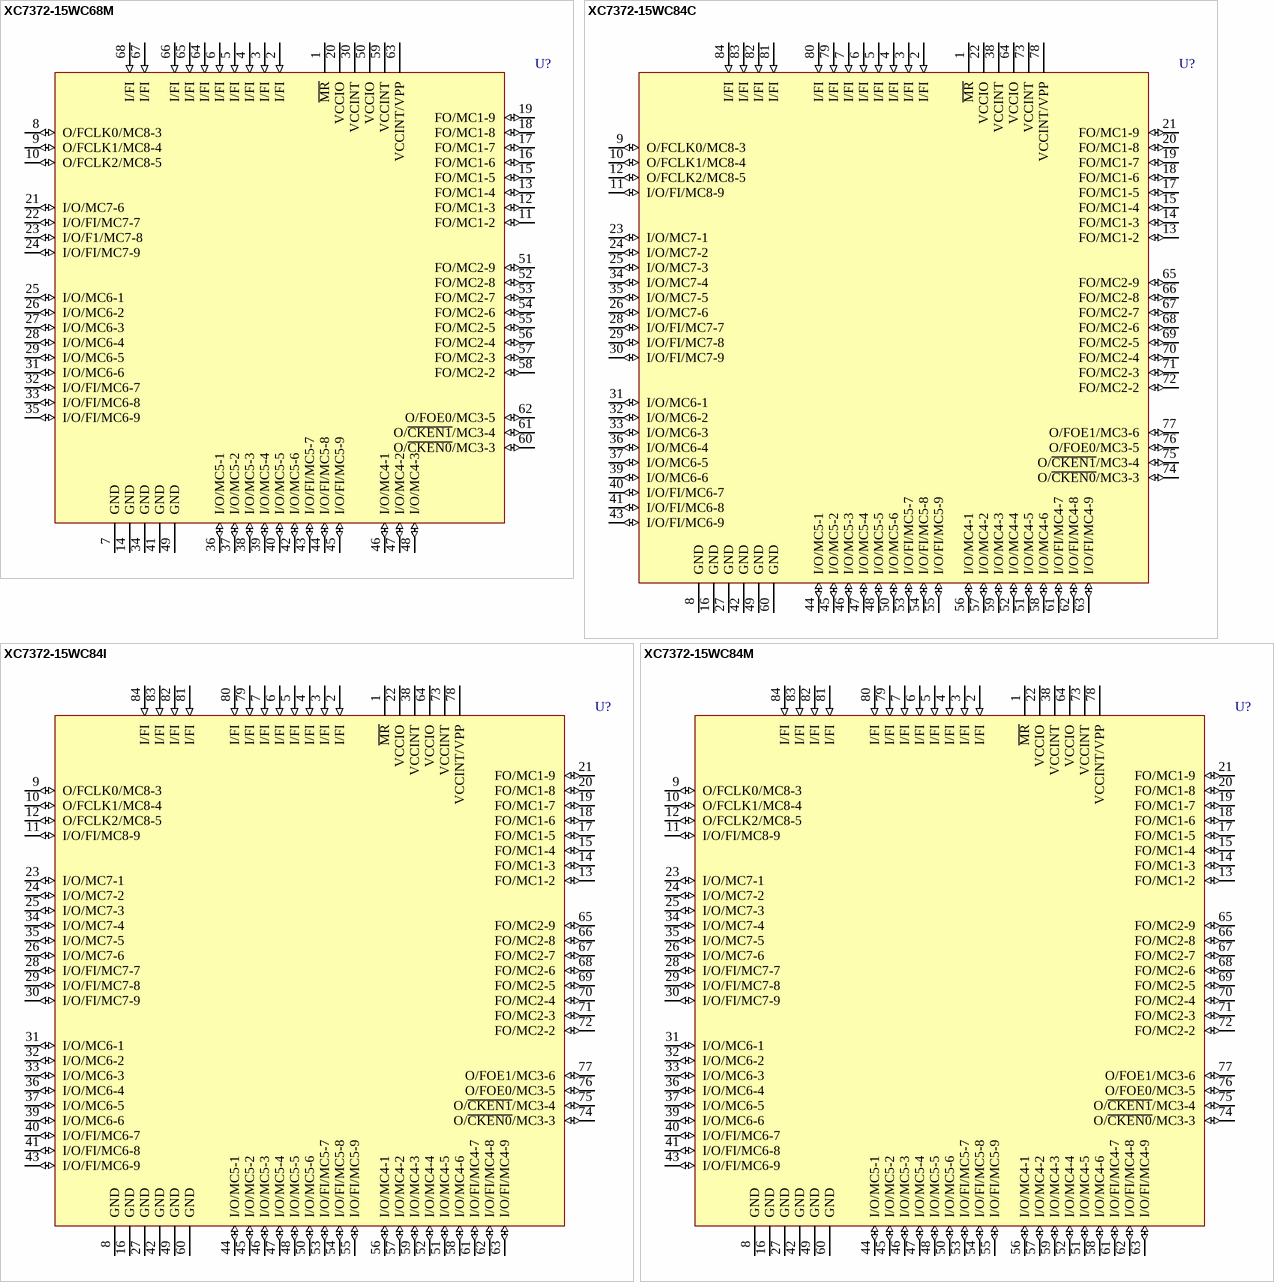
[diagram p28: symbols XC7372-15WC68M to XC7372-15WC84M]

## XC7372-15WC68M
designator U?
72 Macrocell CMOS EPLD, with 25 I/O Pins, 68-Pin CLCC, Military Grade; PackageDocument: 1994; Published: 8-Jun-2000; LatestRevisionDate: 17-Jul-2002; LatestRevisionNote: Re-released for DXP Platform.; DatasheetDocument: 1994; PackageReference: WC68; Publisher: Altium Limited
footprint WC68 (68-Pin Windowed Ceramic Leaded Chip Carrier (WC68))
pins: 1 ~{MR}, 2 I/FI (in), 3 I/FI (in), 4 I/FI (in), 5 I/FI (in), 6 I/FI (in), 7 GND (power), 8 O/FCLK0/MC8-3 (io), 9 O/FCLK1/MC8-4 (io), 10 O/FCLK2/MC8-5 (io), 11 FO/MC1-2 (io), 12 FO/MC1-3 (io), 13 FO/MC1-4 (io), 14 GND (power), 15 FO/MC1-5 (io), 16 FO/MC1-6 (io), 17 FO/MC1-7 (io), 18 FO/MC1-8 (io), 19 FO/MC1-9 (io), 20 VCCIO (power), 21 I/O/MC7-6 (io), 22 I/O/FI/MC7-7 (io), 23 I/O/F1/MC7-8 (io), 24 I/O/FI/MC7-9 (io), 25 I/O/MC6-1 (io), 26 I/O/MC6-2 (io), 27 I/O/MC6-3 (io), 28 I/O/MC6-4 (io), 29 I/O/MC6-5 (io), 30 VCCINT (power), 31 I/O/MC6-6 (io), 32 I/O/FI/MC6-7 (io), 33 I/O/FI/MC6-8 (io), 34 GND (power), 35 I/O/FI/MC6-9 (io), 36 I/O/MC5-1 (io), 37 I/O/MC5-2 (io), 38 I/O/MC5-3 (io), 39 I/O/MC5-4 (io), 40 I/O/MC5-5 (io), 41 GND (power), 42 I/O/MC5-6 (io), 43 I/O/FI/MC5-7 (io), 44 I/O/FI/MC5-8 (io), 45 I/O/FI/MC5-9 (io), 46 I/O/MC4-1 (io), 47 I/O/MC4-2 (io), 48 I/O/MC4-3 (io), 49 GND (power), 50 VCCIO (power), 51 FO/MC2-9 (io), 52 FO/MC2-8 (io), 53 FO/MC2-7 (io), 54 FO/MC2-6 (io), 55 FO/MC2-5 (io), 56 FO/MC2-4 (io), 57 FO/MC2-3 (io), 58 FO/MC2-2 (io), 59 VCCINT (power), 60 O/~{CKEN0}/MC3-3 (io), 61 O/~{CKEN1}/MC3-4 (io), 62 O/FOE0/MC3-5 (io), 63 VCCINT/VPP (power), 64 I/FI (in), 65 I/FI (in), 66 I/FI (in), 67 I/FI (in), 68 I/FI (in)

## XC7372-15WC84C
designator U?
72 Macrocell CMOS EPLD, with 37 I/O Pins, 84-Pin CLCC, Commercial Grade; PackageDocument: 1994; Published: 8-Jun-2000; LatestRevisionDate: 17-Jul-2002; LatestRevisionNote: Re-released for DXP Platform.; DatasheetDocument: 1994; PackageReference: WC84; Publisher: Altium Limited
footprint WC84 (84-Pin Windowed Ceramic Leaded Chip Carrier (WC84))
pins: 1 ~{MR}, 2 I/FI (in), 3 I/FI (in), 4 I/FI (in), 5 I/FI (in), 6 I/FI (in), 7 I/FI (in), 8 GND (power), 9 O/FCLK0/MC8-3 (io), 10 O/FCLK1/MC8-4 (io), 11 I/O/FI/MC8-9 (io), 12 O/FCLK2/MC8-5 (io), 13 FO/MC1-2 (io), 14 FO/MC1-3 (io), 15 FO/MC1-4 (io), 16 GND (power), 17 FO/MC1-5 (io), 18 FO/MC1-6 (io), 19 FO/MC1-7 (io), 20 FO/MC1-8 (io), 21 FO/MC1-9 (io), 22 VCCIO (power), 23 I/O/MC7-1 (io), 24 I/O/MC7-2 (io), 25 I/O/MC7-3 (io), 26 I/O/MC7-6 (io), 27 GND (power), 28 I/O/FI/MC7-7 (io), 29 I/O/FI/MC7-8 (io), 30 I/O/FI/MC7-9 (io), 31 I/O/MC6-1 (io), 32 I/O/MC6-2 (io), 33 I/O/MC6-3 (io), 34 I/O/MC7-4 (io), 35 I/O/MC7-5 (io), 36 I/O/MC6-4 (io), 37 I/O/MC6-5 (io), 38 VCCINT (power), 39 I/O/MC6-6 (io), 40 I/O/FI/MC6-7 (io), 41 I/O/FI/MC6-8 (io), 42 GND (power), 43 I/O/FI/MC6-9 (io), 44 I/O/MC5-1 (io), 45 I/O/MC5-2 (io), 46 I/O/MC5-3 (io), 47 I/O/MC5-4 (io), 48 I/O/MC5-5 (io), 49 GND (power), 50 I/O/MC5-6 (io), 51 I/O/MC4-5 (io), 52 I/O/MC4-4 (io), 53 I/O/FI/MC5-7 (io), 54 I/O/FI/MC5-8 (io), 55 I/O/FI/MC5-9 (io), 56 I/O/MC4-1 (io), 57 I/O/MC4-2 (io), 58 I/O/MC4-6 (io), 59 I/O/MC4-3 (io), 60 GND (power), 61 I/O/FI/MC4-7 (io), 62 I/O/FI/MC4-8 (io), 63 I/O/FI/MC4-9 (io), 64 VCCIO (power), 65 FO/MC2-9 (io), 66 FO/MC2-8 (io), 67 FO/MC2-7 (io), 68 FO/MC2-6 (io), 69 FO/MC2-5 (io), 70 FO/MC2-4 (io), 71 FO/MC2-3 (io), 72 FO/MC2-2 (io), 73 VCCINT (power), 74 O/~{CKEN0}/MC3-3 (io), 75 O/~{CKEN1}/MC3-4 (io), 76 O/FOE0/MC3-5 (io), 77 O/FOE1/MC3-6 (io), 78 VCCINT/VPP (power), 79 I/FI (in), 80 I/FI (in), 81 I/FI (in), 82 I/FI (in), 83 I/FI (in), 84 I/FI (in)

## XC7372-15WC84I
designator U?
72 Macrocell CMOS EPLD, with 37 I/O Pins, 84-Pin CLCC, Industrial Grade; PackageDocument: 1994; Published: 8-Jun-2000; LatestRevisionDate: 17-Jul-2002; LatestRevisionNote: Re-released for DXP Platform.; DatasheetDocument: 1994; PackageReference: WC84; Publisher: Altium Limited
footprint WC84 (84-Pin Windowed Ceramic Leaded Chip Carrier (WC84))
pins: 1 ~{MR}, 2 I/FI (in), 3 I/FI (in), 4 I/FI (in), 5 I/FI (in), 6 I/FI (in), 7 I/FI (in), 8 GND (power), 9 O/FCLK0/MC8-3 (io), 10 O/FCLK1/MC8-4 (io), 11 I/O/FI/MC8-9 (io), 12 O/FCLK2/MC8-5 (io), 13 FO/MC1-2 (io), 14 FO/MC1-3 (io), 15 FO/MC1-4 (io), 16 GND (power), 17 FO/MC1-5 (io), 18 FO/MC1-6 (io), 19 FO/MC1-7 (io), 20 FO/MC1-8 (io), 21 FO/MC1-9 (io), 22 VCCIO (power), 23 I/O/MC7-1 (io), 24 I/O/MC7-2 (io), 25 I/O/MC7-3 (io), 26 I/O/MC7-6 (io), 27 GND (power), 28 I/O/FI/MC7-7 (io), 29 I/O/FI/MC7-8 (io), 30 I/O/FI/MC7-9 (io), 31 I/O/MC6-1 (io), 32 I/O/MC6-2 (io), 33 I/O/MC6-3 (io), 34 I/O/MC7-4 (io), 35 I/O/MC7-5 (io), 36 I/O/MC6-4 (io), 37 I/O/MC6-5 (io), 38 VCCINT (power), 39 I/O/MC6-6 (io), 40 I/O/FI/MC6-7 (io), 41 I/O/FI/MC6-8 (io), 42 GND (power), 43 I/O/FI/MC6-9 (io), 44 I/O/MC5-1 (io), 45 I/O/MC5-2 (io), 46 I/O/MC5-3 (io), 47 I/O/MC5-4 (io), 48 I/O/MC5-5 (io), 49 GND (power), 50 I/O/MC5-6 (io), 51 I/O/MC4-5 (io), 52 I/O/MC4-4 (io), 53 I/O/FI/MC5-7 (io), 54 I/O/FI/MC5-8 (io), 55 I/O/FI/MC5-9 (io), 56 I/O/MC4-1 (io), 57 I/O/MC4-2 (io), 58 I/O/MC4-6 (io), 59 I/O/MC4-3 (io), 60 GND (power), 61 I/O/FI/MC4-7 (io), 62 I/O/FI/MC4-8 (io), 63 I/O/FI/MC4-9 (io), 64 VCCIO (power), 65 FO/MC2-9 (io), 66 FO/MC2-8 (io), 67 FO/MC2-7 (io), 68 FO/MC2-6 (io), 69 FO/MC2-5 (io), 70 FO/MC2-4 (io), 71 FO/MC2-3 (io), 72 FO/MC2-2 (io), 73 VCCINT (power), 74 O/~{CKEN0}/MC3-3 (io), 75 O/~{CKEN1}/MC3-4 (io), 76 O/FOE0/MC3-5 (io), 77 O/FOE1/MC3-6 (io), 78 VCCINT/VPP (power), 79 I/FI (in), 80 I/FI (in), 81 I/FI (in), 82 I/FI (in), 83 I/FI (in), 84 I/FI (in)

## XC7372-15WC84M
designator U?
72 Macrocell CMOS EPLD, with 37 I/O Pins, 84-Pin CLCC, Military Grade; PackageDocument: 1994; Published: 8-Jun-2000; LatestRevisionDate: 17-Jul-2002; LatestRevisionNote: Re-released for DXP Platform.; DatasheetDocument: 1994; PackageReference: WC84; Publisher: Altium Limited
footprint WC84 (84-Pin Windowed Ceramic Leaded Chip Carrier (WC84))
pins: 1 ~{MR}, 2 I/FI (in), 3 I/FI (in), 4 I/FI (in), 5 I/FI (in), 6 I/FI (in), 7 I/FI (in), 8 GND (power), 9 O/FCLK0/MC8-3 (io), 10 O/FCLK1/MC8-4 (io), 11 I/O/FI/MC8-9 (io), 12 O/FCLK2/MC8-5 (io), 13 FO/MC1-2 (io), 14 FO/MC1-3 (io), 15 FO/MC1-4 (io), 16 GND (power), 17 FO/MC1-5 (io), 18 FO/MC1-6 (io), 19 FO/MC1-7 (io), 20 FO/MC1-8 (io), 21 FO/MC1-9 (io), 22 VCCIO (power), 23 I/O/MC7-1 (io), 24 I/O/MC7-2 (io), 25 I/O/MC7-3 (io), 26 I/O/MC7-6 (io), 27 GND (power), 28 I/O/FI/MC7-7 (io), 29 I/O/FI/MC7-8 (io), 30 I/O/FI/MC7-9 (io), 31 I/O/MC6-1 (io), 32 I/O/MC6-2 (io), 33 I/O/MC6-3 (io), 34 I/O/MC7-4 (io), 35 I/O/MC7-5 (io), 36 I/O/MC6-4 (io), 37 I/O/MC6-5 (io), 38 VCCINT (power), 39 I/O/MC6-6 (io), 40 I/O/FI/MC6-7 (io), 41 I/O/FI/MC6-8 (io), 42 GND (power), 43 I/O/FI/MC6-9 (io), 44 I/O/MC5-1 (io), 45 I/O/MC5-2 (io), 46 I/O/MC5-3 (io), 47 I/O/MC5-4 (io), 48 I/O/MC5-5 (io), 49 GND (power), 50 I/O/MC5-6 (io), 51 I/O/MC4-5 (io), 52 I/O/MC4-4 (io), 53 I/O/FI/MC5-7 (io), 54 I/O/FI/MC5-8 (io), 55 I/O/FI/MC5-9 (io), 56 I/O/MC4-1 (io), 57 I/O/MC4-2 (io), 58 I/O/MC4-6 (io), 59 I/O/MC4-3 (io), 60 GND (power), 61 I/O/FI/MC4-7 (io), 62 I/O/FI/MC4-8 (io), 63 I/O/FI/MC4-9 (io), 64 VCCIO (power), 65 FO/MC2-9 (io), 66 FO/MC2-8 (io), 67 FO/MC2-7 (io), 68 FO/MC2-6 (io), 69 FO/MC2-5 (io), 70 FO/MC2-4 (io), 71 FO/MC2-3 (io), 72 FO/MC2-2 (io), 73 VCCINT (power), 74 O/~{CKEN0}/MC3-3 (io), 75 O/~{CKEN1}/MC3-4 (io), 76 O/FOE0/MC3-5 (io), 77 O/FOE1/MC3-6 (io), 78 VCCINT/VPP (power), 79 I/FI (in), 80 I/FI (in), 81 I/FI (in), 82 I/FI (in), 83 I/FI (in), 84 I/FI (in)

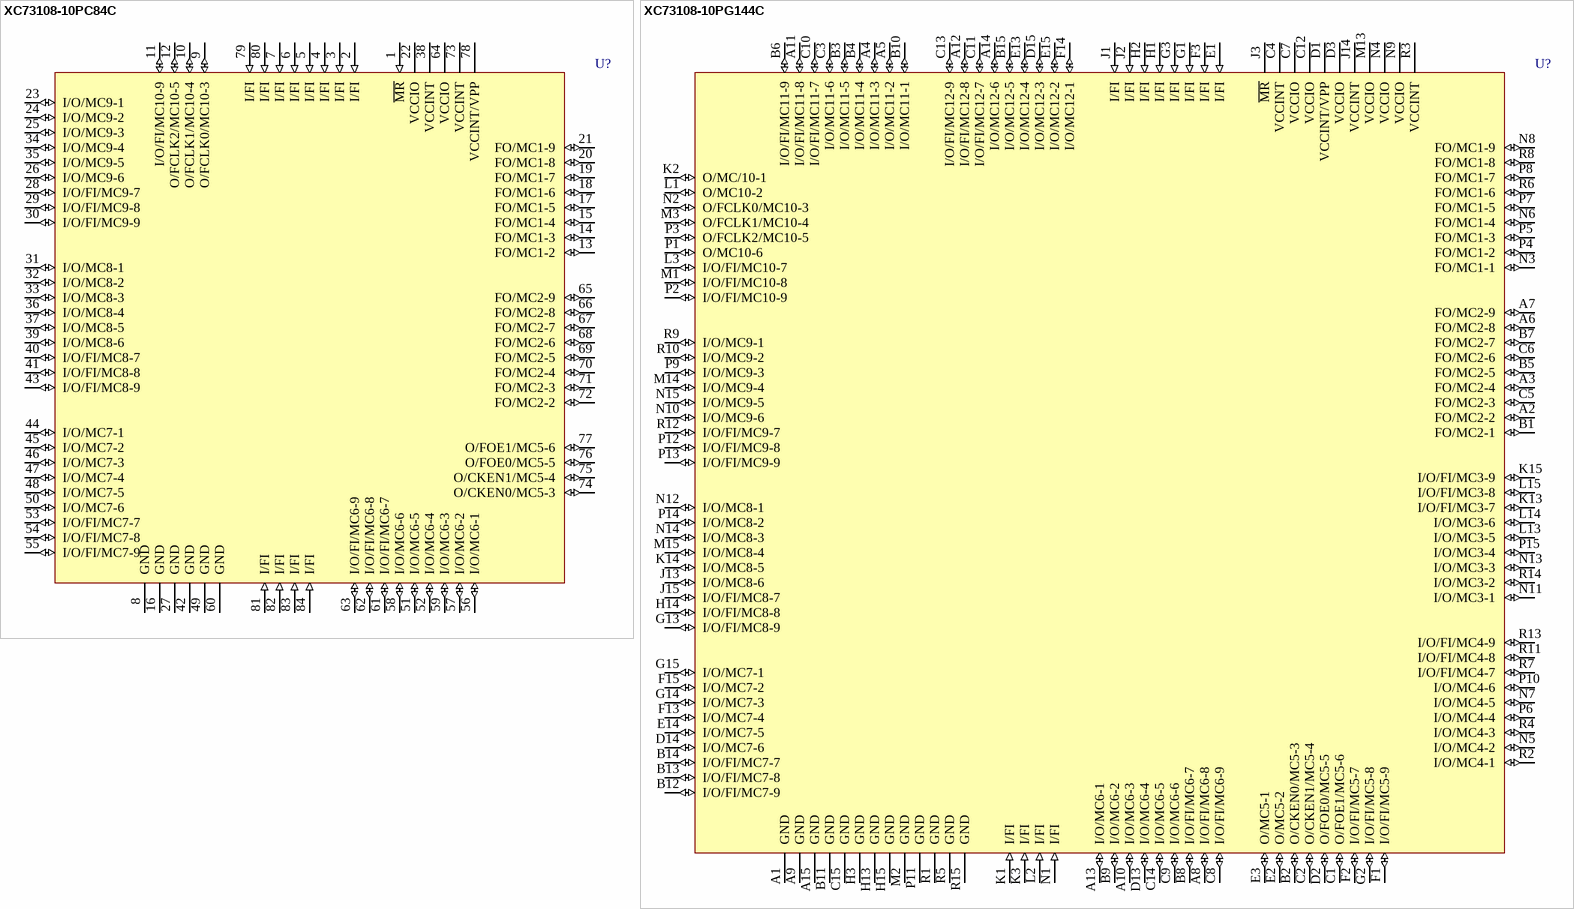
[diagram p29: symbols XC73108-10PC84C to XC73108-10PG144C]

## XC73108-10PC84C
designator U?
108 Macrocell CMOS EPLD, with 37 I/O Pins, 84-Pin PLCC, Commercial Grade; PackageDocument: ver1.0, Jun-2000; Published: 8-Jun-2000; LatestRevisionDate: 17-Sep-2003; LatestRevisionNote: PCB Footprint dimensions updated; DatasheetDocument: 1994; PackageReference: PC84; Publisher: Altium Limited; Code_JEDEC: MS-047; Code_IPC: PLCC-84
footprint PC84 (84-Pin Plastic Leaded Chip Carrier (PC84))
pins: 1 ~{MR} (in), 2 I/FI (in), 3 I/FI (in), 4 I/FI (in), 5 I/FI (in), 6 I/FI (in), 7 I/FI (in), 8 GND (power), 9 O/FCLK0/MC10-3 (io), 10 O/FCLK1/MC10-4 (io), 11 I/O/FI/MC10-9 (io), 12 O/FCLK2/MC10-5 (io), 13 FO/MC1-2 (io), 14 FO/MC1-3 (io), 15 FO/MC1-4 (io), 16 GND (power), 17 FO/MC1-5 (io), 18 FO/MC1-6 (io), 19 FO/MC1-7 (io), 20 FO/MC1-8 (io), 21 FO/MC1-9 (io), 22 VCCIO (power), 23 I/O/MC9-1 (io), 24 I/O/MC9-2 (io), 25 I/O/MC9-3 (io), 26 I/O/MC9-6 (io), 27 GND (power), 28 I/O/FI/MC9-7 (io), 29 I/O/FI/MC9-8 (io), 30 I/O/FI/MC9-9 (io), 31 I/O/MC8-1 (io), 32 I/O/MC8-2 (io), 33 I/O/MC8-3 (io), 34 I/O/MC9-4 (io), 35 I/O/MC9-5 (io), 36 I/O/MC8-4 (io), 37 I/O/MC8-5 (io), 38 VCCINT (power), 39 I/O/MC8-6 (io), 40 I/O/FI/MC8-7 (io), 41 I/O/FI/MC8-8 (io), 42 GND (power), 43 I/O/FI/MC8-9 (io), 44 I/O/MC7-1 (io), 45 I/O/MC7-2 (io), 46 I/O/MC7-3 (io), 47 I/O/MC7-4 (io), 48 I/O/MC7-5 (io), 49 GND (power), 50 I/O/MC7-6 (io), 51 I/O/MC6-5 (io), 52 I/O/MC6-4 (io), 53 I/O/FI/MC7-7 (io), 54 I/O/FI/MC7-8 (io), 55 I/O/FI/MC7-9 (io), 56 I/O/MC6-1 (io), 57 I/O/MC6-2 (io), 58 I/O/MC6-6 (io), 59 I/O/MC6-3 (io), 60 GND (power), 61 I/O/FI/MC6-7 (io), 62 I/O/FI/MC6-8 (io), 63 I/O/FI/MC6-9 (io), 64 VCCIO (power), 65 FO/MC2-9 (io), 66 FO/MC2-8 (io), 67 FO/MC2-7 (io), 68 FO/MC2-6 (io), 69 FO/MC2-5 (io), 70 FO/MC2-4 (io), 71 FO/MC2-3 (io), 72 FO/MC2-2 (io), 73 VCCINT (power), 74 O/CKEN0/MC5-3 (io), 75 O/CKEN1/MC5-4 (io), 76 O/FOE0/MC5-5 (io), 77 O/FOE1/MC5-6 (io), 78 VCCINT/VPP (power), 79 I/FI (in), 80 I/FI (in), 81 I/FI (in), 82 I/FI (in), 83 I/FI (in), 84 I/FI (in)

## XC73108-10PG144C
designator U?
108 Macrocell CMOS EPLD, with 78 I/O Pins, 144-Pin PGA, Commercial Grade; PackageDocument: 1994; Published: 8-Jun-2000; LatestRevisionDate: 21-May-2003; LatestRevisionNote: PCB Footprint 'PGA40x40-P145/X1.5' renamed; DatasheetDocument: 1994; PackageReference: PG144; Publisher: Altium Limited
footprint PG144 (144-Pin Ceramic Pin Grid Array (PG144))
pins: A1 GND (power), A2 FO/MC2-2 (io), A3 FO/MC2-4 (io), A4 I/O/MC11-3 (io), A5 I/O/MC11-2 (io), A6 FO/MC2-8 (io), A7 FO/MC2-9 (io), A8 I/O/FI/MC6-8 (io), A9 GND (power), A10 I/O/MC6-3 (io), A11 I/O/FI/MC11-8 (io), A12 I/O/FI/MC12-8 (io), A13 I/O/MC6-1 (io), A14 I/O/MC12-6 (io), A15 GND (power), B1 FO/MC2-1 (io), B2 O/CKEN0/MC5-3 (io), B3 I/O/MC11-5 (io), B4 I/O/MC11-4 (io), B5 FO/MC2-5 (io), B6 I/O/FI/MC11-9 (io), B7 FO/MC2-7 (io), B8 I/O/FI/MC6-7 (io), B9 I/O/MC6-2 (io), B10 I/O/MC11-1 (io), B11 GND (power), B12 I/O/FI/MC7-9 (io), B13 I/O/FI/MC7-8 (io), B14 I/O/FI/MC7-7 (io), B15 I/O/MC12-5 (io), C1 O/FOE1/MC5-6 (io), C2 O/CKEN1/MC5-4 (io), C3 I/O/MC11-6 (io), C4 VCCINT (power), C5 FO/MC2-3 (io), C6 FO/MC2-6 (io), C7 VCCIO (power), C8 I/O/FI/MC6-9 (io), C9 I/O/MC6-6 (io), C10 I/O/FI/MC11-7 (io), C11 I/O/FI/MC12-7 (io), C12 VCCIO (power), C13 I/O/FI/MC12-9 (io), C14 I/O/MC6-5 (io), C15 GND (power), D1 VCCINT/VPP (power), D2 O/FOE0/MC5-5 (io), D3 VCCIO (power), D13 I/O/MC6-4 (io), D14 I/O/MC7-6 (io), D15 I/O/MC12-3 (io), E1 I/FI (in), E2 O/MC5-2 (io), E3 O/MC5-1 (io), E13 I/O/MC12-4 (io), E14 I/O/MC7-5 (io), E15 I/O/MC12-2 (io), F1 I/O/FI/MC5-9 (io), F2 I/O/FI/MC5-7 (io), F3 I/FI (in), F13 I/O/MC7-4 (io), F14 I/O/MC12-1 (io), F15 I/O/MC7-2 (io), G1 I/FI (in), G2 I/O/FI/MC5-8 (io), G3 I/FI (in), G13 I/O/FI/MC8-9 (io), G14 I/O/MC7-3 (io), G15 I/O/MC7-1 (io), H1 I/FI (in), H2 I/FI (in), H3 GND (power), H13 GND (power), H14 I/O/FI/MC8-8 (io), H15 GND (power), J1 I/FI (in), J2 I/FI (in), J3 ~{MR}, J13 I/O/MC8-6 (io), J14 VCCINT (power), J15 I/O/FI/MC8-7 (io), K1 I/FI (in), K2 O/MC/10-1 (io), K3 I/FI (in), K13 I/O/FI/MC3-7 (io), K14 I/O/MC8-5 (io), K15 I/O/FI/MC3-9 (io), L1 O/MC10-2 (io), L2 I/FI (in), L3 I/O/FI/MC10-7 (io), L13 I/O/MC3-5 (io), L14 I/O/MC3-6 (io), L15 I/O/FI/MC3-8 (io), M1 I/O/FI/MC10-8 (io), M2 GND (power), M3 O/FCLK1/MC10-4 (io), M13 VCCIO (power), M14 I/O/MC9-4 (io), M15 I/O/MC8-4 (io), N1 I/FI (in), N2 O/FCLK0/MC10-3 (io), N3 FO/MC1-1 (io), N4 VCCIO (power), N5 I/O/MC4-2 (io), N6 FO/MC1-4 (io), N7 I/O/MC4-5 (io), N8 FO/MC1-9 (io), N9 VCCIO (power), N10 I/O/MC9-6 (io), N11 I/O/MC3-1 (io), N12 I/O/MC8-1 (io), N13 I/O/MC3-3 (io), N14 I/O/MC8-3 (io), N15 I/O/MC9-5 (io), P1 O/MC10-6 (io), P2 I/O/FI/MC10-9 (io), P3 O/FCLK2/MC10-5 (io), P4 FO/MC1-2 (io), P5 FO/MC1-3 (io), P6 I/O/MC4-4 (io), P7 FO/MC1-5 (io), P8 FO/MC1-7 (io), P9 I/O/MC9-3 (io), P10 I/O/MC4-6 (io), P11 GND (power), P12 I/O/FI/MC9-8 (io), P13 I/O/FI/MC9-9 (io), P14 I/O/MC8-2 (io), P15 I/O/MC3-4 (io), R1 GND (power), R2 I/O/MC4-1 (io), R3 VCCINT (power), R4 I/O/MC4-3 (io), R5 GND (power), R6 FO/MC1-6 (io), R7 I/O/FI/MC4-7 (io), R8 FO/MC1-8 (io), R9 I/O/MC9-1 (io), R10 I/O/MC9-2 (io), R11 I/O/FI/MC4-8 (io), R12 I/O/FI/MC9-7 (io), R13 I/O/FI/MC4-9 (io), R14 I/O/MC3-2 (io), R15 GND (power)

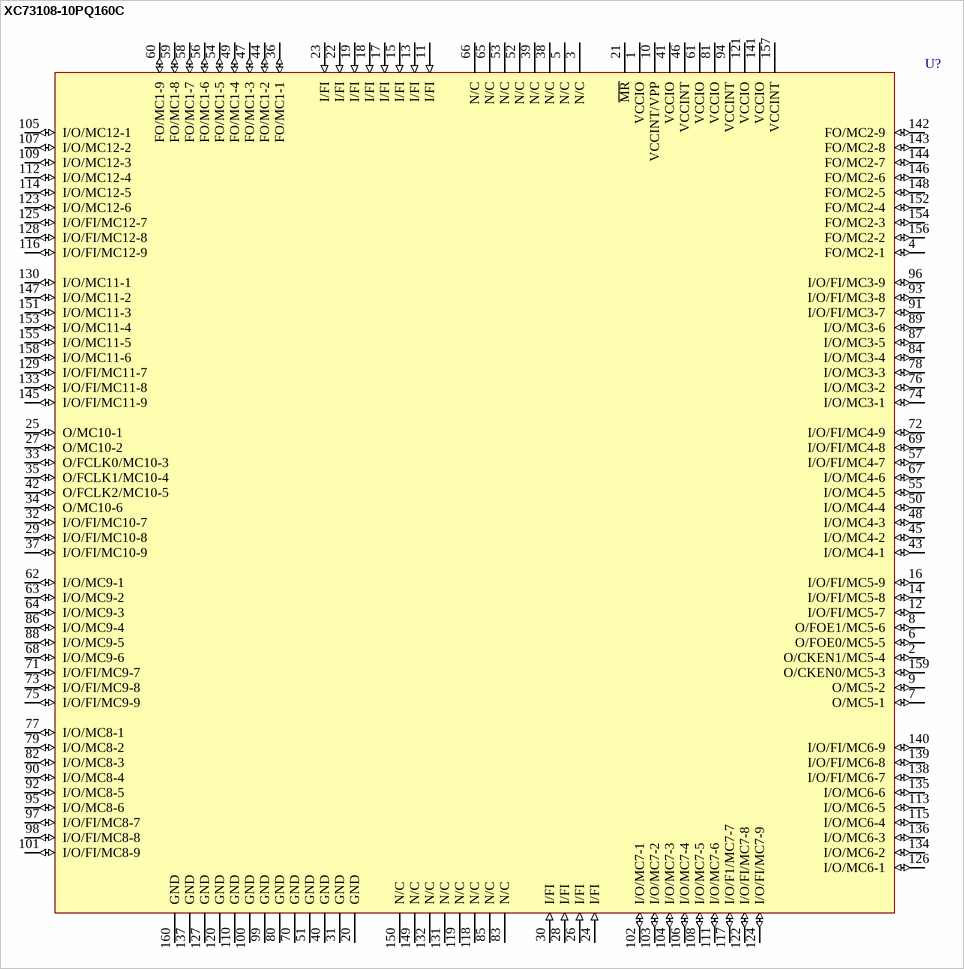
[diagram p30: symbol XC73108-10PQ160C]

## XC73108-10PQ160C
designator U?
108 Macrocell CMOS EPLD, with 78 I/O Pins, 160-Pin PQFP, Commercial Grade; PackageDocument: ver1.1, Oct-2002; Published: 8-Jun-2000; LatestRevisionDate: 17-Jul-2002; LatestRevisionNote: PCB footprint, 'QFP28x28-G160/D28N' replaced; Re-released for DXP Platform.; DatasheetDocument: 1994; PackageReference: PQ160; Publisher: Altium Limited; Code_JEDEC: MS-022-DD1
footprint PQ160 (160-Pin Plastic Quad Flat Pack (PQ160))
pins: 1 VCCIO (power), 2 O/CKEN1/MC5-4 (io), 3 N/C, 4 FO/MC2-1 (io), 5 N/C, 6 O/FOE0/MC5-5 (io), 7 O/MC5-1 (io), 8 O/FOE1/MC5-6 (io), 9 O/MC5-2 (io), 10 VCCINT/VPP (power), 11 I/FI (in), 12 I/O/FI/MC5-7 (io), 13 I/FI (in), 14 I/O/FI/MC5-8 (io), 15 I/FI (in), 16 I/O/FI/MC5-9 (io), 17 I/FI (in), 18 I/FI (in), 19 I/FI (in), 20 GND (power), 21 ~{MR}, 22 I/FI (in), 23 I/FI (in), 24 I/FI (in), 25 O/MC10-1 (io), 26 I/FI (in), 27 O/MC10-2 (io), 28 I/FI (in), 29 I/O/FI/MC10-8 (io), 30 I/FI (in), 31 GND (power), 32 I/O/FI/MC10-7 (io), 33 O/FCLK0/MC10-3 (io), 34 O/MC10-6 (io), 35 O/FCLK1/MC10-4 (io), 36 FO/MC1-1 (io), 37 I/O/FI/MC10-9 (io), 38 N/C, 39 N/C, 40 GND (power), 41 VCCIO (power), 42 O/FCLK2/MC10-5 (io), 43 I/O/MC4-1 (io), 44 FO/MC1-2 (io), 45 I/O/MC4-2 (io), 46 VCCINT (power), 47 FO/MC1-3 (io), 48 I/O/MC4-3 (io), 49 FO/MC1-4 (io), 50 I/O/MC4-4 (io), 51 GND (power), 52 N/C, 53 N/C, 54 FO/MC1-5 (io), 55 I/O/MC4-5 (io), 56 FO/MC1-6 (io), 57 I/O/FI/MC4-7 (io), 58 FO/MC1-7 (io), 59 FO/MC1-8 (io), 60 FO/MC1-9 (io), 61 VCCIO (power), 62 I/O/MC9-1 (io), 63 I/O/MC9-2 (io), 64 I/O/MC9-3 (io), 65 N/C, 66 N/C, 67 I/O/MC4-6 (io), 68 I/O/MC9-6 (io), 69 I/O/FI/MC4-8 (io), 70 GND (power), 71 I/O/FI/MC9-7 (io), 72 I/O/FI/MC4-9 (io), 73 I/O/FI/MC9-8 (io), 74 I/O/MC3-1 (io), 75 I/O/FI/MC9-9 (io), 76 I/O/MC3-2 (io), 77 I/O/MC8-1 (io), 78 I/O/MC3-3 (io), 79 I/O/MC8-2 (io), 80 GND (power), 81 VCCIO (power), 82 I/O/MC8-3 (io), 83 N/C, 84 I/O/MC3-4 (io), 85 N/C, 86 I/O/MC9-4 (io), 87 I/O/MC3-5 (io), 88 I/O/MC9-5 (io), 89 I/O/MC3-6 (io), 90 I/O/MC8-4 (io), 91 I/O/FI/MC3-7 (io), 92 I/O/MC8-5 (io), 93 I/O/FI/MC3-8 (io), 94 VCCINT (power), 95 I/O/MC8-6 (io), 96 I/O/FI/MC3-9 (io), 97 I/O/FI/MC8-7 (io), 98 I/O/FI/MC8-8 (io), 99 GND (power), 100 GND (power), 101 I/O/FI/MC8-9 (io), 102 I/O/MC7-1 (io), 103 I/O/MC7-2 (io), 104 I/O/MC7-3 (io), 105 I/O/MC12-1 (io), 106 I/O/MC7-4 (io), 107 I/O/MC12-2 (io), 108 I/O/MC7-5 (io), 109 I/O/MC12-3 (io), 110 GND (power), 111 I/O/MC7-6 (io), 112 I/O/MC12-4 (io), 113 I/O/MC6-5 (io), 114 I/O/MC12-5 (io), 115 I/O/MC6-4 (io), 116 I/O/FI/MC12-9 (io), 117 I/O/F1/MC7-7 (io), 118 N/C, 119 N/C, 120 GND (power), 121 VCCIO (power), 122 I/O/FI/MC7-8 (io), 123 I/O/MC12-6 (io), 124 I/O/FI/MC7-9 (io), 125 I/O/FI/MC12-7 (io), 126 I/O/MC6-1 (io), 127 GND (power), 128 I/O/FI/MC12-8 (io), 129 I/O/FI/MC11-7 (io), 130 I/O/MC11-1 (io), 131 N/C, 132 N/C, 133 I/O/FI/MC11-8 (io), 134 I/O/MC6-2 (io), 135 I/O/MC6-6 (io), 136 I/O/MC6-3 (io), 137 GND (power), 138 I/O/FI/MC6-7 (io), 139 I/O/FI/MC6-8 (io), 140 I/O/FI/MC6-9 (io), 141 VCCIO (power), 142 FO/MC2-9 (io), 143 FO/MC2-8 (io), 144 FO/MC2-7 (io), 145 I/O/FI/MC11-9 (io), 146 FO/MC2-6 (io), 147 I/O/MC11-2 (io), 148 FO/MC2-5 (io), 149 N/C, 150 N/C, 151 I/O/MC11-3 (io), 152 FO/MC2-4 (io), 153 I/O/MC11-4 (io), 154 FO/MC2-3 (io), 155 I/O/MC11-5 (io), 156 FO/MC2-2 (io), 157 VCCINT (power), 158 I/O/MC11-6 (io), 159 O/CKEN0/MC5-3 (io), 160 GND (power)

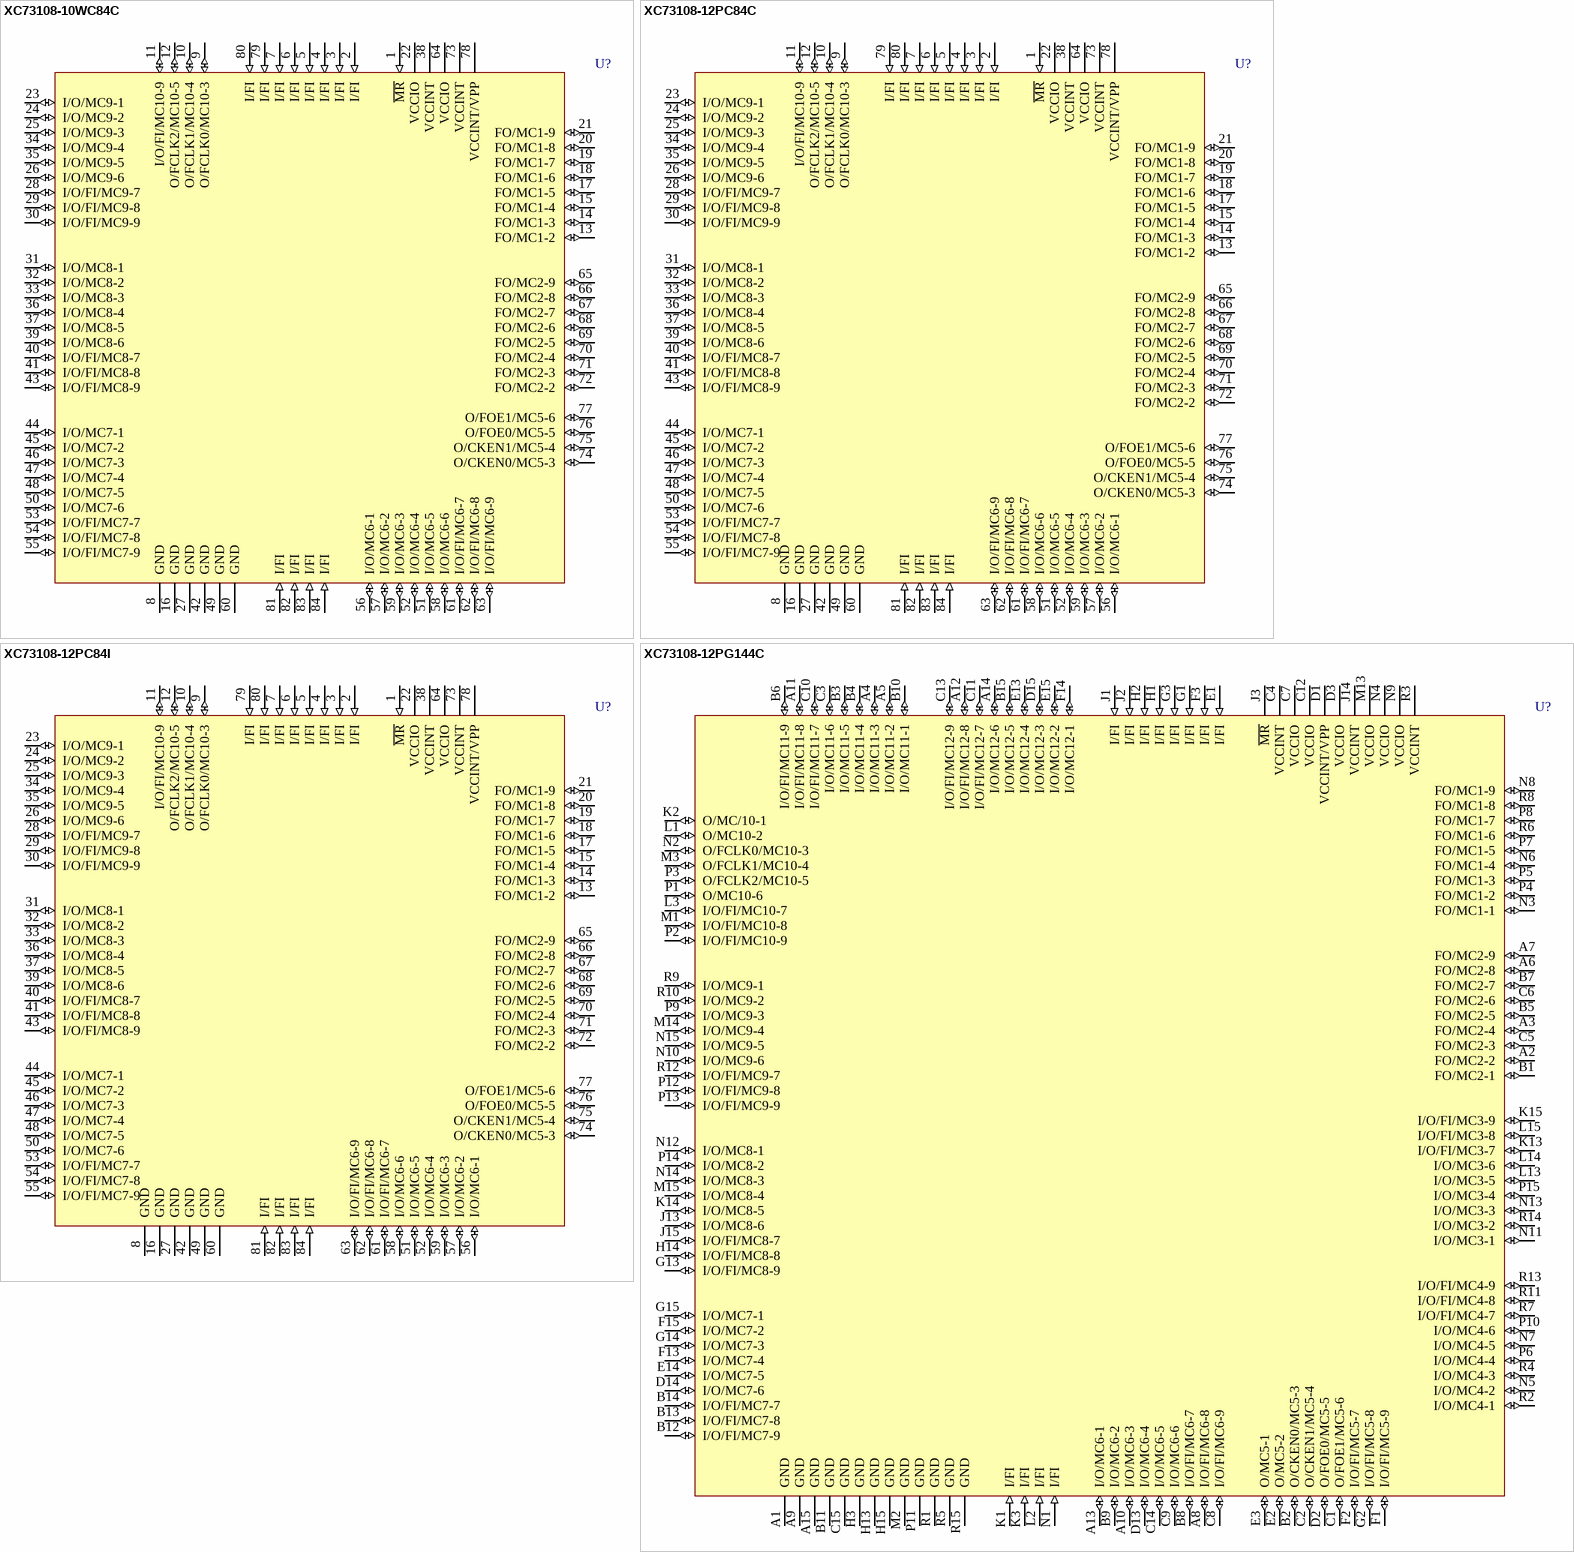
[diagram p31: symbols XC73108-10WC84C to XC73108-12PG144C]

## XC73108-10WC84C
designator U?
108 Macrocell CMOS EPLD, with 37 I/O Pins, 84-Pin CLCC, Commercial Grade; PackageDocument: 1994; Published: 8-Jun-2000; LatestRevisionDate: 17-Jul-2002; LatestRevisionNote: Re-released for DXP Platform.; DatasheetDocument: 1994; PackageReference: WC84; Publisher: Altium Limited
footprint WC84 (84-Pin Windowed Ceramic Leaded Chip Carrier (WC84))
pins: 1 ~{MR} (in), 2 I/FI (in), 3 I/FI (in), 4 I/FI (in), 5 I/FI (in), 6 I/FI (in), 7 I/FI (in), 8 GND (power), 9 O/FCLK0/MC10-3 (io), 10 O/FCLK1/MC10-4 (io), 11 I/O/FI/MC10-9 (io), 12 O/FCLK2/MC10-5 (io), 13 FO/MC1-2 (io), 14 FO/MC1-3 (io), 15 FO/MC1-4 (io), 16 GND (power), 17 FO/MC1-5 (io), 18 FO/MC1-6 (io), 19 FO/MC1-7 (io), 20 FO/MC1-8 (io), 21 FO/MC1-9 (io), 22 VCCIO (power), 23 I/O/MC9-1 (io), 24 I/O/MC9-2 (io), 25 I/O/MC9-3 (io), 26 I/O/MC9-6 (io), 27 GND (power), 28 I/O/FI/MC9-7 (io), 29 I/O/FI/MC9-8 (io), 30 I/O/FI/MC9-9 (io), 31 I/O/MC8-1 (io), 32 I/O/MC8-2 (io), 33 I/O/MC8-3 (io), 34 I/O/MC9-4 (io), 35 I/O/MC9-5 (io), 36 I/O/MC8-4 (io), 37 I/O/MC8-5 (io), 38 VCCINT (power), 39 I/O/MC8-6 (io), 40 I/O/FI/MC8-7 (io), 41 I/O/FI/MC8-8 (io), 42 GND (power), 43 I/O/FI/MC8-9 (io), 44 I/O/MC7-1 (io), 45 I/O/MC7-2 (io), 46 I/O/MC7-3 (io), 47 I/O/MC7-4 (io), 48 I/O/MC7-5 (io), 49 GND (power), 50 I/O/MC7-6 (io), 51 I/O/MC6-5 (io), 52 I/O/MC6-4 (io), 53 I/O/FI/MC7-7 (io), 54 I/O/FI/MC7-8 (io), 55 I/O/FI/MC7-9 (io), 56 I/O/MC6-1 (io), 57 I/O/MC6-2 (io), 58 I/O/MC6-6 (io), 59 I/O/MC6-3 (io), 60 GND (power), 61 I/O/FI/MC6-7 (io), 62 I/O/FI/MC6-8 (io), 63 I/O/FI/MC6-9 (io), 64 VCCIO (power), 65 FO/MC2-9 (io), 66 FO/MC2-8 (io), 67 FO/MC2-7 (io), 68 FO/MC2-6 (io), 69 FO/MC2-5 (io), 70 FO/MC2-4 (io), 71 FO/MC2-3 (io), 72 FO/MC2-2 (io), 73 VCCINT (power), 74 O/CKEN0/MC5-3 (io), 75 O/CKEN1/MC5-4 (io), 76 O/FOE0/MC5-5 (io), 77 O/FOE1/MC5-6 (io), 78 VCCINT/VPP (power), 79 I/FI (in), 80 I/FI (in), 81 I/FI (in), 82 I/FI (in), 83 I/FI (in), 84 I/FI (in)